# Altium schematic symbol library Microcontrolador.SchLib: 32 symbols (part 1 of 3)
Pins are listed as number, name and electrical type; pins without a type are passive.

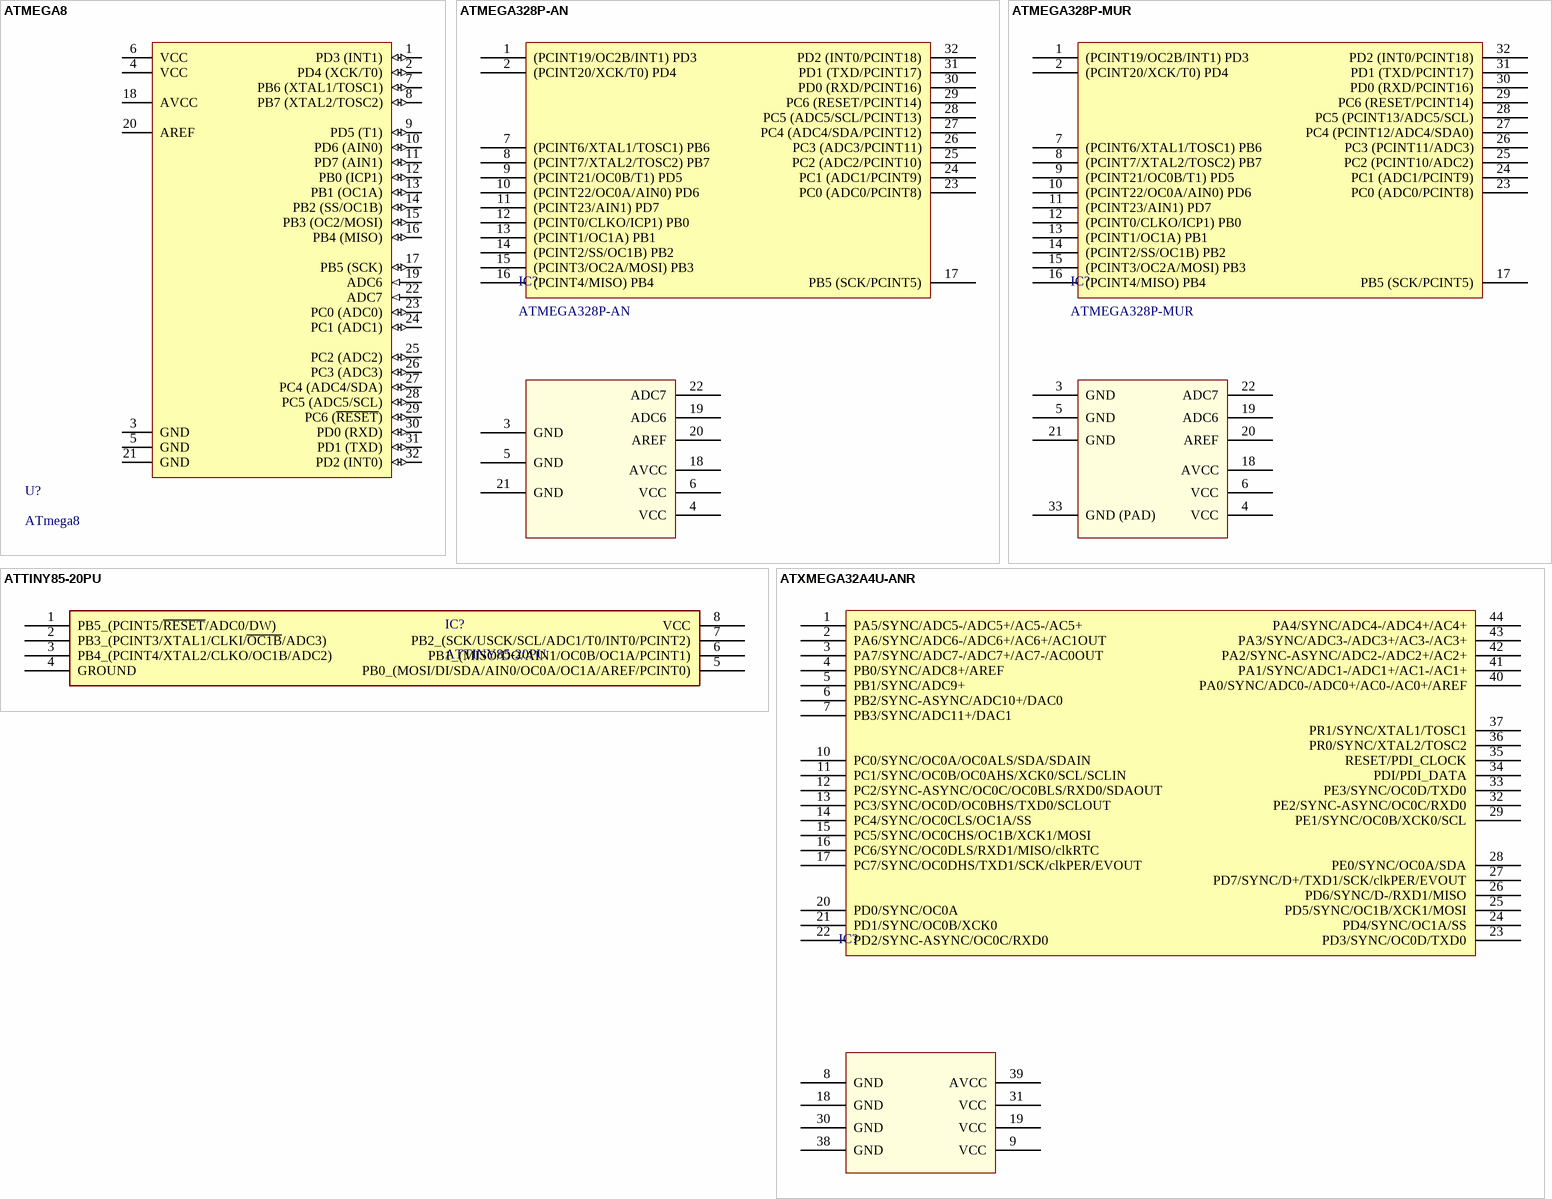
[diagram p0: symbols ATMEGA8 to ATXMEGA32A4U-ANR]

## ATMEGA8
designator U?, comment ATmega8
8-bit Atmel with / 8KBytes InSystem / Programmable / Flash
footprint ATMEGA8
pins: 1 PD3 (INT1) (io), 2 PD4 (XCK/T0) (io), 3 GND (power), 4 VCC (power), 5 GND (power), 6 VCC (power), 7 PB6 (XTAL1/TOSC1) (io), 8 PB7 (XTAL2/TOSC2) (io), 9 PD5 (T1) (io), 10 PD6 (AIN0) (io), 11 PD7 (AIN1) (io), 12 PB0 (ICP1) (io), 13 PB1 (OC1A) (io), 14 PB2 (SS/OC1B) (io), 15 PB3 (OC2/MOSI) (io), 16 PB4 (MISO) (io), 17 PB5 (SCK) (io), 18 AVCC (power), 19 ADC6 (in), 20 AREF, 21 GND (power), 22 ADC7 (in), 23 PC0 (ADC0) (io), 24 PC1 (ADC1) (io), 25 PC2 (ADC2) (io), 26 PC3 (ADC3) (io), 27 PC4 (ADC4/SDA) (io), 28 PC5 (ADC5/SCL) (io), 29 PC6 (~{RESET}) (io), 30 PD0 (RXD) (io), 31 PD1 (TXD) (io), 32 PD2 (INT0) (io)

## ATMEGA328P-AN
designator IC?
IC MCU 8-BIT 32KB FLASH AVR 20MHZ TQFP-32; Manufacturer: Microchip Technology; Connectivity: I2C,SPI,USART; Number of I/Os: 23; Oscillator Type: Internal; Peripherals: Reset,PWM,WDT,SPI,I2C,ADC,Timer; RAM Size: 2 kB; Voltage - Supply (Vcc/Vdd): 1.8V ~ 5.5V; Number of Timers/Counters: 3; Number of ADC Channels: 8; Number of SPI Channels: 2; Number of I2C Channels: 1; Library Control - Checked Footprint: Yes; Library Control - Person that Checked Footprint: Gustavo; Library Control - Person that did the Last Update Footprint: Stéfany (Ster); Library Control - Person that did the Last Update Schematic: Dimas; Supplier 1: Mouser; Part Number: ATMEGA328P-AN; Category: AVR-Microcontrollers-8 bits; Price: 1=2,7800, 100=2,4900 (USD); Package / Case: TQFP-32; Operating Temperature: - 40C ~ 105C; Speed: 20 MHz; Program Memory Type: Flash; Program Memory Size: 32 kB; Core Processor: AVR; Core Size: 8-bit; Number of UART/USART Channels: 1; Number of Ethernet Channels: -; Number of USB Channels: 1; Series: megaAVR; Library Ref: Microcontroller; Supplier Part Number 1: 556-ATMEGA328P-AN; Library Control - Checked Schematic: Yes; Library Control - Last Update: 19/08/2022 20:28; Library Control - Person that Checked Schematic: Gustavo; ComponentLink1Description: Mouser Link; ComponentLink1URL: https://br.mouser.com/ProductDetail/Microchip-Technology-Atmel/ATMEGA328P-AN?qs=6Dg1WZIWLC6WK556tw8xAw%3D%3D; ComponentLink2Description: Datasheet; ComponentLink2URL: https://br.mouser.com/datasheet/2/268/ATmega48A_PA_88A_PA_168A_PA_328_P_DS_DS40002061B-1900559.pdf
footprint QFP-32
pins: 1 (PCINT19/OC2B/INT1) PD3, 2 (PCINT20/XCK/T0) PD4, 3 GND, 4 VCC, 5 GND, 6 VCC, 7 (PCINT6/XTAL1/TOSC1) PB6, 8 (PCINT7/XTAL2/TOSC2) PB7, 9 (PCINT21/OC0B/T1) PD5, 10 (PCINT22/OC0A/AIN0) PD6, 11 (PCINT23/AIN1) PD7, 12 (PCINT0/CLKO/ICP1) PB0, 13 (PCINT1/OC1A) PB1, 14 (PCINT2/SS/OC1B) PB2, 15 (PCINT3/OC2A/MOSI) PB3, 16 (PCINT4/MISO) PB4, 17 PB5 (SCK/PCINT5), 18 AVCC, 19 ADC6, 20 AREF, 21 GND, 22 ADC7, 23 PC0 (ADC0/PCINT8), 24 PC1 (ADC1/PCINT9), 25 PC2 (ADC2/PCINT10), 26 PC3 (ADC3/PCINT11), 27 PC4 (ADC4/SDA/PCINT12), 28 PC5 (ADC5/SCL/PCINT13), 29 PC6 (RESET/PCINT14), 30 PD0 (RXD/PCINT16), 31 PD1 (TXD/PCINT17), 32 PD2 (INT0/PCINT18)

## ATMEGA328P-MUR
designator IC?
IC MCU 8-BIT 32kB FLASH AVR 20MHZ VQFN-32; Manufacturer: Microchip Technology; Connectivity: I2C, SPI, USART; Number of I/Os: 23; Oscillator Type: Internal; Peripherals: Reset,PWM,WDT,SPI,I2C,ADC,Timer; RAM Size: 2 kB; Voltage - Supply (Vcc/Vdd): 1.8V ~ 5.5V; Number of Timers/Counters: 3; Number of ADC Channels: 8; Number of SPI Channels: 2; Number of I2C Channels: 1; Library Control - Checked Footprint: Yes; Library Control - Person that Checked Footprint: Gustavo; Library Control - Person that did the Last Update Footprint: Stéfany (Ster); Supplier 1: Mouser; Part Number: ATMEGA328P-MUR; Category: AVR-Microcontrollers-8 bits; Price: 1=2.72, 100=2.48 (USD); Package / Case: VQFN-32; Operating Temperature: -40C ~ 85C; Speed: 20 MHz; Program Memory Type: Flash; Program Memory Size: 32 kB; Core Processor: AVR; Core Size: 8-bit; Number of UART/USART Channels: 1; Number of Ethernet Channels: -; Number of USB Channels: 1; Series: megaAVR; Library Ref: Microcontrollers; Supplier Part Number 1: 556-ATMEGA328P-MUR; Library Control - Checked Schematic: Yes; Library Control - Last Project that Used: -; Library Control - Last Update: 19/08/2022 20:48; Library Control - Person that Checked Schematic: Gustavo; Library Control - Person that did the Last Update Schematic: Stéfany (Ster); ComponentLink1Description: Datasheet; ComponentLink1URL: https://br.mouser.com/datasheet/2/268/ATmega48A_PA_88A_PA_168A_PA_328_P_DS_DS40002061B-1900559.pdf; ComponentLink2Description: Mouser link; ComponentLink2URL: https://br.mouser.com/ProductDetail/Microchip-Technology-Atmel/ATMEGA328P-MUR?qs=6Dg1WZIWLC7u6Xm9ddn7Uw%3D%3D
footprint VQFN-32
pins: 1 (PCINT19/OC2B/INT1) PD3, 2 (PCINT20/XCK/T0) PD4, 3 GND, 4 VCC, 5 GND, 6 VCC, 7 (PCINT6/XTAL1/TOSC1) PB6, 8 (PCINT7/XTAL2/TOSC2) PB7, 9 (PCINT21/OC0B/T1) PD5, 10 (PCINT22/OC0A/AIN0) PD6, 11 (PCINT23/AIN1) PD7, 12 (PCINT0/CLKO/ICP1) PB0, 13 (PCINT1/OC1A) PB1, 14 (PCINT2/SS/OC1B) PB2, 15 (PCINT3/OC2A/MOSI) PB3, 16 (PCINT4/MISO) PB4, 17 PB5 (SCK/PCINT5), 18 AVCC, 19 ADC6, 20 AREF, 21 GND, 22 ADC7, 23 PC0 (ADC0/PCINT8), 24 PC1 (ADC1/PCINT9), 25 PC2 (PCINT10/ADC2), 26 PC3 (PCINT11/ADC3), 27 PC4 (PCINT12/ADC4/SDA0), 28 PC5 (PCINT13/ADC5/SCL), 29 PC6 (RESET/PCINT14), 30 PD0 (RXD/PCINT16), 31 PD1 (TXD/PCINT17), 32 PD2 (INT0/PCINT18), 33 GND (PAD)

## ATTINY85-20PU
designator IC?
IC MCU 8-BIT 8kB FLASH tinyAVR 20MHZ  PDIP-8; Manufacturer: Atmel; Number of I/Os: 6; Oscillator Type: Internal; Peripherals: ADC, Timer; Core Processor: AVR; RAM Size: 512 B; Voltage - Supply (Vcc/Vdd): 2.7 V to 5.5 V; Number of Timers/Counters: 2; Number of ADC Channels: 4; Library Control - Person that Checked Footprint: Gustavo; Library Control - Person that did the Last Update Footprint: Marcos; Supplier 1: Mouser; Part Number: ATTINY85-20PU; Category: 8-bit Microcontrollers - MCU; Price: 1 = $1.65, 25=$1.51, 100 = $1.49 (USD); Package/Case: PDIP-8; Operating Temperature: -55°C to 85°C; Connectivity: -; Speed: 20MHz; Program Memory Type: Flash; Program Memory Size: 8kB; Core Size: *; Number of SPI Channels: -; Number of I2C Channels: -; Number of UART/USART Channels: -; Number of Ethernet Channels: -; Series: tinyAVR; Library Ref: Microcrontrollers; Supplier Part Number 1: 556-ATTINY85-20PU; Library Control - Checked Footprint: *; Library Control - Checked Schematic: *; Library Control - Last Project that Used: *; Library Control - Last Update: 19/08/2022 20:31; Library Control - Person that Checked Schematic: Gustavo; Library Control - Person that did the Last Update Schematic: Marcos; ComponentLink1Description: Mouser Link; ComponentLink1URL: https://www.mouser.com/ProductDetail/Microchip-Technology-Atmel/ATTINY85-20PU?qs=%2Fha2pyFadujL4RlxtpWxxLMm%2FfUrIxqVY%252BEOQbU4i0DgqHEcrHvHEg%3D%3D; ComponentLink2Description: Datasheet Link; ComponentLink2URL: https://www.mouser.com/datasheet/2/268/Atmel-2586-AVR-8-bit-Microcontroller-ATtiny25-ATti-1315542.pdf
footprint PDIP-8
pins: 1 PB5_(PCINT5/~{RESET}/ADC0/DW), 2 PB3_(PCINT3/XTAL1/CLKI/~{OC1B}/ADC3), 3 PB4_(PCINT4/XTAL2/CLKO/OC1B/ADC2), 4 GROUND (power), 5 PB0_(MOSI/DI/SDA/AIN0/OC0A/OC1A/AREF/PCINT0), 6 PB1_(MISO/DO/AIN1/OC0B/OC1A/PCINT1), 7 PB2_(SCK/USCK/SCL/ADC1/T0/INT0/PCINT2), 8 VCC (power)

## ATXMEGA32A4U-ANR
designator IC?  (value not drawn)
IC MCU 8-BIT/16-BIT 32kB FLASH AVR 32MHZ TQFP-44; Manufacturer: Microchip Technology; Connectivity: I2C,IrDA,SPI,USART; Number of I/Os: 34; Oscillator Type: Internal; Peripherals: DMA,Timer,USB,USART,I2C,SPI,CRC,RTC,ADC,DAC,WDT,Reset; RAM Size: 4 kB; Voltage - Supply (Vcc/Vdd): 1.6V ~ 3.6V; Number of Timers/Counters: 5; Number of ADC Channels: 12; Number of SPI Channels: 2; Number of USB Channels: 1; Library Control - Checked Footprint: Yes; Library Control - Person that Checked Footprint: Gustavo; Library Control - Person that did the Last Update Footprint: Stéfany (Ster); Supplier 1: Mouser; Part Number: ATXMEGA32A4U-ANR; Category: AVR-Microcontrollers-8 bits; Price: 1=3.94, 100=3.56 (USD); Package / Case: TQFP-44; Operating Temperature: 0C ~ 105C; Speed: 32 MHz; Program Memory Type: Flash; Program Memory Size: 32 kB; Core Processor: AVR; Core Size: 8-bit/16-bit; Number of I2C Channels: 2; Number of UART/USART Channels: 5; Number of Ethernet Channels: -; Series: XMEGA A4U; Library Ref: Microcontrollers; Supplier Part Number 1: 556-ATXMEGA32A4U-ANR; Library Control - Checked Schematic: Yes; Library Control - Last Update: 19/08/2022 20:34; Library Control - Person that Checked Schematic: Gustavo; Library Control - Person that did the Last Update Schematic: Stéfany (Ster); ComponentLink1Description: Datasheet; ComponentLink1URL: https://br.mouser.com/datasheet/2/268/Atmel-8387-8-and16-bit-AVR-Microcontroller-XMEGA-A-1315807.pdf; ComponentLink2Description: Mouser link; ComponentLink2URL: https://br.mouser.com/ProductDetail/Microchip-Technology-Atmel/ATXMEGA32A4U-ANR?qs=sGAEpiMZZMvqv2n3s2xjsZOYMmYBhu6pT0E%2F4KoK%252BVDPJ26LYg5w0g%3D%3D
footprint TQFP-44
pins: 1 PA5/SYNC/ADC5-/ADC5+/AC5-/AC5+, 2 PA6/SYNC/ADC6-/ADC6+/AC6+/AC1OUT, 3 PA7/SYNC/ADC7-/ADC7+/AC7-/AC0OUT, 4 PB0/SYNC/ADC8+/AREF, 5 PB1/SYNC/ADC9+, 6 PB2/SYNC-ASYNC/ADC10+/DAC0, 7 PB3/SYNC/ADC11+/DAC1, 8 GND, 9 VCC, 10 PC0/SYNC/OC0A/OC0ALS/SDA/SDAIN, 11 PC1/SYNC/OC0B/OC0AHS/XCK0/SCL/SCLIN, 12 PC2/SYNC-ASYNC/OC0C/OC0BLS/RXD0/SDAOUT, 13 PC3/SYNC/OC0D/OC0BHS/TXD0/SCLOUT, 14 PC4/SYNC/OC0CLS/OC1A/SS, 15 PC5/SYNC/OC0CHS/OC1B/XCK1/MOSI, 16 PC6/SYNC/OC0DLS/RXD1/MISO/clkRTC, 17 PC7/SYNC/OC0DHS/TXD1/SCK/clkPER/EVOUT, 18 GND, 19 VCC, 20 PD0/SYNC/OC0A, 21 PD1/SYNC/OC0B/XCK0, 22 PD2/SYNC-ASYNC/OC0C/RXD0, 23 PD3/SYNC/OC0D/TXD0, 24 PD4/SYNC/OC1A/SS, 25 PD5/SYNC/OC1B/XCK1/MOSI, 26 PD6/SYNC/D-/RXD1/MISO, 27 PD7/SYNC/D+/TXD1/SCK/clkPER/EVOUT, 28 PE0/SYNC/OC0A/SDA, 29 PE1/SYNC/OC0B/XCK0/SCL, 30 GND, 31 VCC, 32 PE2/SYNC-ASYNC/OC0C/RXD0, 33 PE3/SYNC/OC0D/TXD0, 34 PDI/PDI_DATA, 35 RESET/PDI_CLOCK, 36 PR0/SYNC/XTAL2/TOSC2, 37 PR1/SYNC/XTAL1/TOSC1, 38 GND, 39 AVCC, 40 PA0/SYNC/ADC0-/ADC0+/AC0-/AC0+/AREF, 41 PA1/SYNC/ADC1-/ADC1+/AC1-/AC1+, 42 PA2/SYNC-ASYNC/ADC2-/ADC2+/AC2+, 43 PA3/SYNC/ADC3-/ADC3+/AC3-/AC3+, 44 PA4/SYNC/ADC4-/ADC4+/AC4+

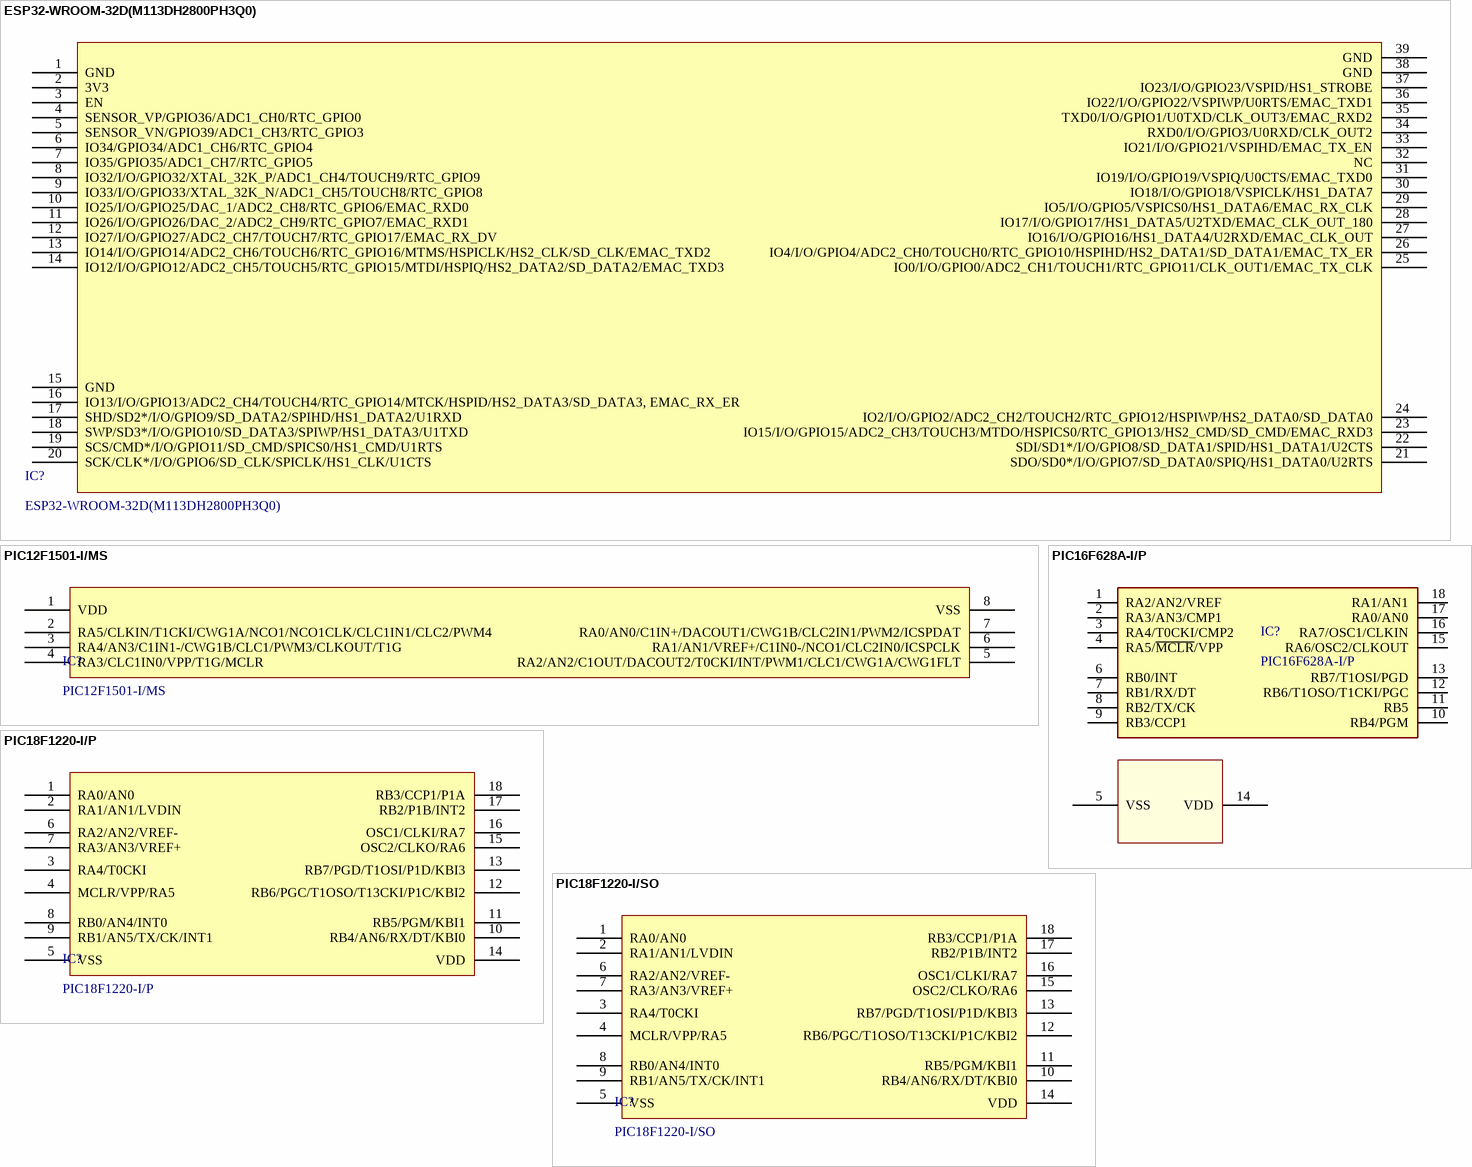
[diagram p1: symbols ESP32-WROOM-32D(M113DH2800PH3Q0) to PIC18F1220-I/SO]

## ESP32-WROOM-32D(M113DH2800PH3Q0)
designator IC?
IC MCU 32BIT 512KB FLASH LX6 240MHZ; Manufacturer: Espressif; Connectivity: SD card, UART, SPI, SDIO, I2C, Bluetooth, Wi-Fi; Number of I/Os: 22; Oscillator Type: External; Peripherals: SD card, UART, SPI, SDIO, I2C, LED PWM, Motor PWM, I2S, IR, pulse counter, GPIO, capacitive touch sensor, ADC, DAC; RAM Size: 520KB; Voltage - Supply (Vcc/Vdd): 2.7V ~ 3.6V; Core Size: 32b; Number of Timers/Counters: 16; Number of ADC Channels: 18; Number of SPI Channels: 3; Number of I2C Channels: 2; Library Control - Checked Footprint: No; Library Control - Last Project that Used: Follow-Final; Library Control - Person that Checked Footprint: Gustavo; Library Control - Person that did the Last Update Footprint: Mateus(Dimas); Supplier 1: Mouser; Part Number: ESP32-WROOM-32D(M113DH2800PH3Q0); Category: Microcontrollers; Price: 1 = 4.65 (USD); Package / Case: -; Operating Temperature: -40°C ~ 85°C; Speed: 240MHz; Program Memory Type: FLASH; Program Memory Size: 512KB; Core Processor: LX6; Mouser Link: https://br.mouser.com/ProductDetail/Espressif-Systems/ESP32-WROOM-32DM113DH2800PH3Q0?qs=W%2FMpXkg%252BdQ75%2Fda1rSxxJw%3D%3D; Number of UART Channels: 3; Number of Ethernet Channels: -; Number of USB Channels: -; Series: ESP32; Library Ref: Microcontrollers; Supplier Part Number 1: 356-ES32WROOM32D16MB; Library Control - Checked Schematic: No; Library Control - Last Update: 22/08/2022; Library Control - Person that Checked Schematic: Gustavo; Library Control - Person that did the Last Update Schematic: Mateus(Dimas); ComponentLink1Description: Datasheet; ComponentLink1URL: https://br.mouser.com/datasheet/2/891/esp32_wroom_32d_esp32_wroom_32u_datasheet_en-1365844.pdf; ComponentLink2Description: Mouser Link; ComponentLink2URL: https://br.mouser.com/ProductDetail/Espressif-Systems/ESP32-WROOM-32DM113DH2800PH3Q0?qs=W%2FMpXkg%252BdQ75%2Fda1rSxxJw%3D%3D
footprint ESP32
pins: 1 GND, 2 3V3, 3 EN, 4 SENSOR_VP/GPIO36/ADC1_CH0/RTC_GPIO0, 5 SENSOR_VN/GPIO39/ADC1_CH3/RTC_GPIO3, 6 IO34/GPIO34/ADC1_CH6/RTC_GPIO4, 7 IO35/GPIO35/ADC1_CH7/RTC_GPIO5, 8 IO32/I/O/GPIO32/XTAL_32K_P/ADC1_CH4/TOUCH9/RTC_GPIO9, 9 IO33/I/O/GPIO33/XTAL_32K_N/ADC1_CH5/TOUCH8/RTC_GPIO8, 10 IO25/I/O/GPIO25/DAC_1/ADC2_CH8/RTC_GPIO6/EMAC_RXD0, 11 IO26/I/O/GPIO26/DAC_2/ADC2_CH9/RTC_GPIO7/EMAC_RXD1, 12 IO27/I/O/GPIO27/ADC2_CH7/TOUCH7/RTC_GPIO17/EMAC_RX_DV, 13 IO14/I/O/GPIO14/ADC2_CH6/TOUCH6/RTC_GPIO16/MTMS/HSPICLK/HS2_CLK/SD_CLK/EMAC_TXD2, 14 IO12/I/O/GPIO12/ADC2_CH5/TOUCH5/RTC_GPIO15/MTDI/HSPIQ/HS2_DATA2/SD_DATA2/EMAC_TXD3, 15 GND, 16 IO13/I/O/GPIO13/ADC2_CH4/TOUCH4/RTC_GPIO14/MTCK/HSPID/HS2_DATA3/SD_DATA3, EMAC_RX_ER, 17 SHD/SD2*/I/O/GPIO9/SD_DATA2/SPIHD/HS1_DATA2/U1RXD, 18 SWP/SD3*/I/O/GPIO10/SD_DATA3/SPIWP/HS1_DATA3/U1TXD, 19 SCS/CMD*/I/O/GPIO11/SD_CMD/SPICS0/HS1_CMD/U1RTS, 20 SCK/CLK*/I/O/GPIO6/SD_CLK/SPICLK/HS1_CLK/U1CTS, 21 SDO/SD0*/I/O/GPIO7/SD_DATA0/SPIQ/HS1_DATA0/U2RTS, 22 SDI/SD1*/I/O/GPIO8/SD_DATA1/SPID/HS1_DATA1/U2CTS, 23 IO15/I/O/GPIO15/ADC2_CH3/TOUCH3/MTDO/HSPICS0/RTC_GPIO13/HS2_CMD/SD_CMD/EMAC_RXD3, 24 IO2/I/O/GPIO2/ADC2_CH2/TOUCH2/RTC_GPIO12/HSPIWP/HS2_DATA0/SD_DATA0, 25 IO0/I/O/GPIO0/ADC2_CH1/TOUCH1/RTC_GPIO11/CLK_OUT1/EMAC_TX_CLK, 26 IO4/I/O/GPIO4/ADC2_CH0/TOUCH0/RTC_GPIO10/HSPIHD/HS2_DATA1/SD_DATA1/EMAC_TX_ER, 27 IO16/I/O/GPIO16/HS1_DATA4/U2RXD/EMAC_CLK_OUT, 28 IO17/I/O/GPIO17/HS1_DATA5/U2TXD/EMAC_CLK_OUT_180, 29 IO5/I/O/GPIO5/VSPICS0/HS1_DATA6/EMAC_RX_CLK, 30 IO18/I/O/GPIO18/VSPICLK/HS1_DATA7, 31 IO19/I/O/GPIO19/VSPIQ/U0CTS/EMAC_TXD0, 32 NC, 33 IO21/I/O/GPIO21/VSPIHD/EMAC_TX_EN, 34 RXD0/I/O/GPIO3/U0RXD/CLK_OUT2, 35 TXD0/I/O/GPIO1/U0TXD/CLK_OUT3/EMAC_RXD2, 36 IO22/I/O/GPIO22/VSPIWP/U0RTS/EMAC_TXD1, 37 IO23/I/O/GPIO23/VSPID/HS1_STROBE, 38 GND, 39 GND

## PIC12F1501-I/MS
designator IC?
IC MCU 8-BIT 1.75kB FLASH PIC12F 20MHZ MSOP-8; Manufacturer: Microchip Technology; Number of I/Os: 6; Oscillator Type: Internal; Peripherals: ADC,DAC,PWM,Timer,I/O,Reset; Core Processor: PIC; RAM Size: 64 B; Voltage - Supply (Vcc/Vdd): 2.3V ~ 5.5V; Number of Timers/Counters: 2/1; Number of ADC Channels: 4; Library Control - Checked Footprint: Yes; Library Control - Person that Checked Footprint: Gustavo; Library Control - Person that did the Last Update Footprint: Stéfany (Ster); Supplier 1: Mouser; Part Number: PIC12F1501-I/MS; Category: PIC-Microcontrollers-8 bits; Price: 1=0.88, 100=0.794 (USD); Package / Case: MSOP-8; Operating Temperature: -40C ~ 85C; Connectivity: -; Speed: 20 MHz; Program Memory Type: Flash; Program Memory Size: 1.75 kB; Core Size: 8-bit; Number of SPI Channels: -; Number of I2C Channels: -; Number of UART/USART Channels: -; Number of Ethernet Channels: -; Number of USB Channels: -; Series: PIC12F; Library Ref: Microcontrollers; Supplier Part Number 1: 579-PIC12F1501IMS; Library Control - Checked Schematic: Yes; Library Control - Last Update: 19/08/2022 20:35; Library Control - Person that Checked Schematic: Gustavo; Library Control - Person that did the Last Update Schematic: Stéfany (Ster); ComponentLink1Description: Mouser Link; ComponentLink1URL: https://br.mouser.com/ProductDetail/Microchip-Technology/PIC12F1501-I-MS?qs=%2Fha2pyFaduhP4KuaKjx0gUGiQfUy1YPE5EoXH2ER1q6Qr6rlESCMGw%3D%3D; ComponentLink2Description: Datasheet; ComponentLink2URL: https://br.mouser.com/datasheet/2/268/40001615C-890245.pdf
footprint MSOP-8
pins: 1 VDD, 2 RA5/CLKIN/T1CKI/CWG1A/NCO1/NCO1CLK/CLC1IN1/CLC2/PWM4, 3 RA4/AN3/C1IN1-/CWG1B/CLC1/PWM3/CLKOUT/T1G, 4 RA3/CLC1IN0/VPP/T1G/MCLR, 5 RA2/AN2/C1OUT/DACOUT2/T0CKI/INT/PWM1/CLC1/CWG1A/CWG1FLT, 6 RA1/AN1/VREF+/C1IN0-/NCO1/CLC2IN0/ICSPCLK, 7 RA0/AN0/C1IN+/DACOUT1/CWG1B/CLC2IN1/PWM2/ICSPDAT, 8 VSS

## PIC16F628A-I/P
designator IC?
IC MCU 8-BIT 3.5kB FLASH PIC18F 20MHZ PDIP-18; Manufacturer: Microchip; Connectivity: EAUSART; Number of I/Os: 16 I/O; Oscillator Type: Internal; Peripherals: Timer,I/O,USART,PWM; Core Processor: PIC; RAM Size: 224 B; Voltage - Supply (Vcc/Vdd): 3V ~ 5.5V; Number of Timers/Counters: 2/1; Number of UART Channels: 1; Library Control - Checked Footprint: Yes; Library Control - Person that did the Last Update Footprint: Gustavo; Supplier 1: Mouser; Part Number: PIC16F628A-I/P; Category: Pic 8-bit Microcontrollers; Price: 1 = 3.29(USD); Package / Case: PDIP-18; Operating Temperature: - 40 ~ + 85 C; Speed: 20 MHz; Program Memory Type: Flash; Program Memory Size: 3.5 kB; Core Size: 8-bit; Mouser Link: https://www.mouser.com/ProductDetail/Microchip-Technology-Atmel/PIC16F628A-I-P?qs=TQnwojwsYvhYg%252BlawXiiJg%3D%3D; Number of ADC Channels: -; Number of SPI Channels: -; Number of I2C Channels: -; Number of Ethernet Channels: -; Number of USB Channels: -; Datasheet: https://www.mouser.com/datasheet/2/268/40044G-278038.pdf; Series: PIC16(L)F62x; Library Ref: Microcontrollers; Supplier Part Number 1: 579-PIC16F628A-I/P; Library Control - Checked Schematic: Yes; Library Control - Person that did the Last Update Schematic: Gustavo; ComponentLink1Description: Mouser link; ComponentLink1URL: https://www.mouser.com/ProductDetail/Microchip-Technology-Atmel/PIC16F628A-I-P?qs=TQnwojwsYvhYg%252BlawXiiJg%3D%3D; ComponentLink2Description: datasheet; ComponentLink2URL: https://www.mouser.com/datasheet/2/268/40044G-278038.pdf
footprint PDIP-18
pins: 1 RA2/AN2/VREF, 2 RA3/AN3/CMP1, 3 RA4/T0CKI/CMP2, 4 RA5/~{MCLR}/VPP, 5 VSS, 6 RB0/INT, 7 RB1/RX/DT, 8 RB2/TX/CK, 9 RB3/CCP1, 10 RB4/PGM, 11 RB5, 12 RB6/T1OSO/T1CKI/PGC, 13 RB7/T1OSI/PGD, 14 VDD, 15 RA6/OSC2/CLKOUT, 16 RA7/OSC1/CLKIN, 17 RA0/AN0, 18 RA1/AN1

## PIC18F1220-I/P
designator IC?
IC MCU 8-BIT 4kB FLASH PIC18F 40MHZ PDIP-18; Manufacturer: Microchip Technology; Connectivity: EUSART; Number of I/Os: 16; Oscillator Type: Internal; Peripherals: External Interrupts,PWM,ADC,USART,Reset,Timer; Core Processor: PIC; RAM Size: 256 B; Voltage - Supply (Vcc/Vdd): 4.2V ~ 5.5V; Number of Timers/Counters: 1/3; Number of ADC Channels: 7; Number of UART/USART Channels: 1; Library Control - Checked Footprint: Yes; Library Control - Person that Checked Footprint: Gustavo; Library Control - Person that did the Last Update Footprint: Stéfany (Ster); Supplier 1: Mouser; Part Number: PIC18F1220-I/P; Category: PIC-Microcontrollers-8 bits; Price: 1=4.28 (USD); Package / Case: PDIP-18; Operating Temperature: -40C ~ 85C; Speed: 40 MHz; Program Memory Type: Flash; Program Memory Size: 4 kB; Core Size: 8-bit; Number of SPI Channels: -; Number of I2C Channels: -; Number of Ethernet Channels: -; Number of USB Channels: -; Series: PIC18F; Library Ref: Microcontrollers; Supplier Part Number 1: 579-PIC18F1220-I/P; Library Control - Checked Schematic: Yes; Library Control - Last Update: 19/08/2022 20:37; Library Control - Person that Checked Schematic: Gustavo; Library Control - Person that did the Last Update Schematic: Stéfany (Ster); ComponentLink1Description: Datasheet; ComponentLink1URL: https://br.mouser.com/datasheet/2/268/30009605G-1074158.pdf; ComponentLink2Description: Mouser link; ComponentLink2URL: https://br.mouser.com/ProductDetail/Microchip-Technology/PIC18F1220-I-P?qs=%2Fha2pyFaduhP4KuaKjx0gUGDIJcwiJZSBO0V3uYRB610K18caxExew%3D%3D
footprint PDIP-18
pins: 1 RA0/AN0, 2 RA1/AN1/LVDIN, 3 RA4/T0CKI, 4 MCLR/VPP/RA5, 5 VSS, 6 RA2/AN2/VREF-, 7 RA3/AN3/VREF+, 8 RB0/AN4/INT0, 9 RB1/AN5/TX/CK/INT1, 10 RB4/AN6/RX/DT/KBI0, 11 RB5/PGM/KBI1, 12 RB6/PGC/T1OSO/T13CKI/P1C/KBI2, 13 RB7/PGD/T1OSI/P1D/KBI3, 14 VDD, 15 OSC2/CLKO/RA6, 16 OSC1/CLKI/RA7, 17 RB2/P1B/INT2, 18 RB3/CCP1/P1A

## PIC18F1220-I/SO
designator IC?
IC MCU 8-BIT 4kB FLASH PIC18F 40MHZ SOIC-18; Manufacturer: Microchip Technology; Connectivity: EUSART; Number of I/Os: 16; Oscillator Type: Internal; Peripherals: External Interrupts,Timer,ADC,USART,PWM,Reset; Core Processor: PIC; RAM Size: 256 B; Voltage - Supply (Vcc/Vdd): 4.2V ~ 5.5V; Number of Timers/Counters: 1/3; Number of ADC Channels: 7; Number of UART/USART Channels: 1; Library Control - Checked Footprint: Yes; Library Control - Person that Checked Footprint: Gustavo; Library Control - Person that did the Last Update Footprint: Stéfany (Ster); Supplier 1: Mouser; Part Number: PIC18F1220-I/SO; Category: PIC-Microcontrollers-8 bits; Price: 1=3.96 (USD); Package / Case: SOIC-18; Operating Temperature: -40C ~ 85C; Speed: 40 MHz; Program Memory Type: Flash; Program Memory Size: 4 kB; Core Size: 8-bit; Number of SPI Channels: -; Number of I2C Channels: -; Number of Ethernet Channels: -; Number of USB Channels: -; Series: PIC18F; Library Ref: Microcontrollers; Supplier Part Number 1: 579-PIC18F1220-I/SO; Library Control - Checked Schematic: Yes; Library Control - Last Project that Used: -; Library Control - Last Update: 19/08/2022 20:38; Library Control - Person that Checked Schematic: Gustavo; Library Control - Person that did the Last Update Schematic: Stéfany (Ster); ComponentLink1Description: Datasheet; ComponentLink1URL: https://br.mouser.com/datasheet/2/268/30009605G-1074158.pdf; ComponentLink2Description: Mouser link; ComponentLink2URL: https://br.mouser.com/ProductDetail/Microchip-Technology/PIC18F1220-I-SO?qs=z7SKuAZbLnvkRbBl7qxhsQ%3D%3D
footprint SOIC-18
pins: 1 RA0/AN0, 2 RA1/AN1/LVDIN, 3 RA4/T0CKI, 4 MCLR/VPP/RA5, 5 VSS, 6 RA2/AN2/VREF-, 7 RA3/AN3/VREF+, 8 RB0/AN4/INT0, 9 RB1/AN5/TX/CK/INT1, 10 RB4/AN6/RX/DT/KBI0, 11 RB5/PGM/KBI1, 12 RB6/PGC/T1OSO/T13CKI/P1C/KBI2, 13 RB7/PGD/T1OSI/P1D/KBI3, 14 VDD, 15 OSC2/CLKO/RA6, 16 OSC1/CLKI/RA7, 17 RB2/P1B/INT2, 18 RB3/CCP1/P1A

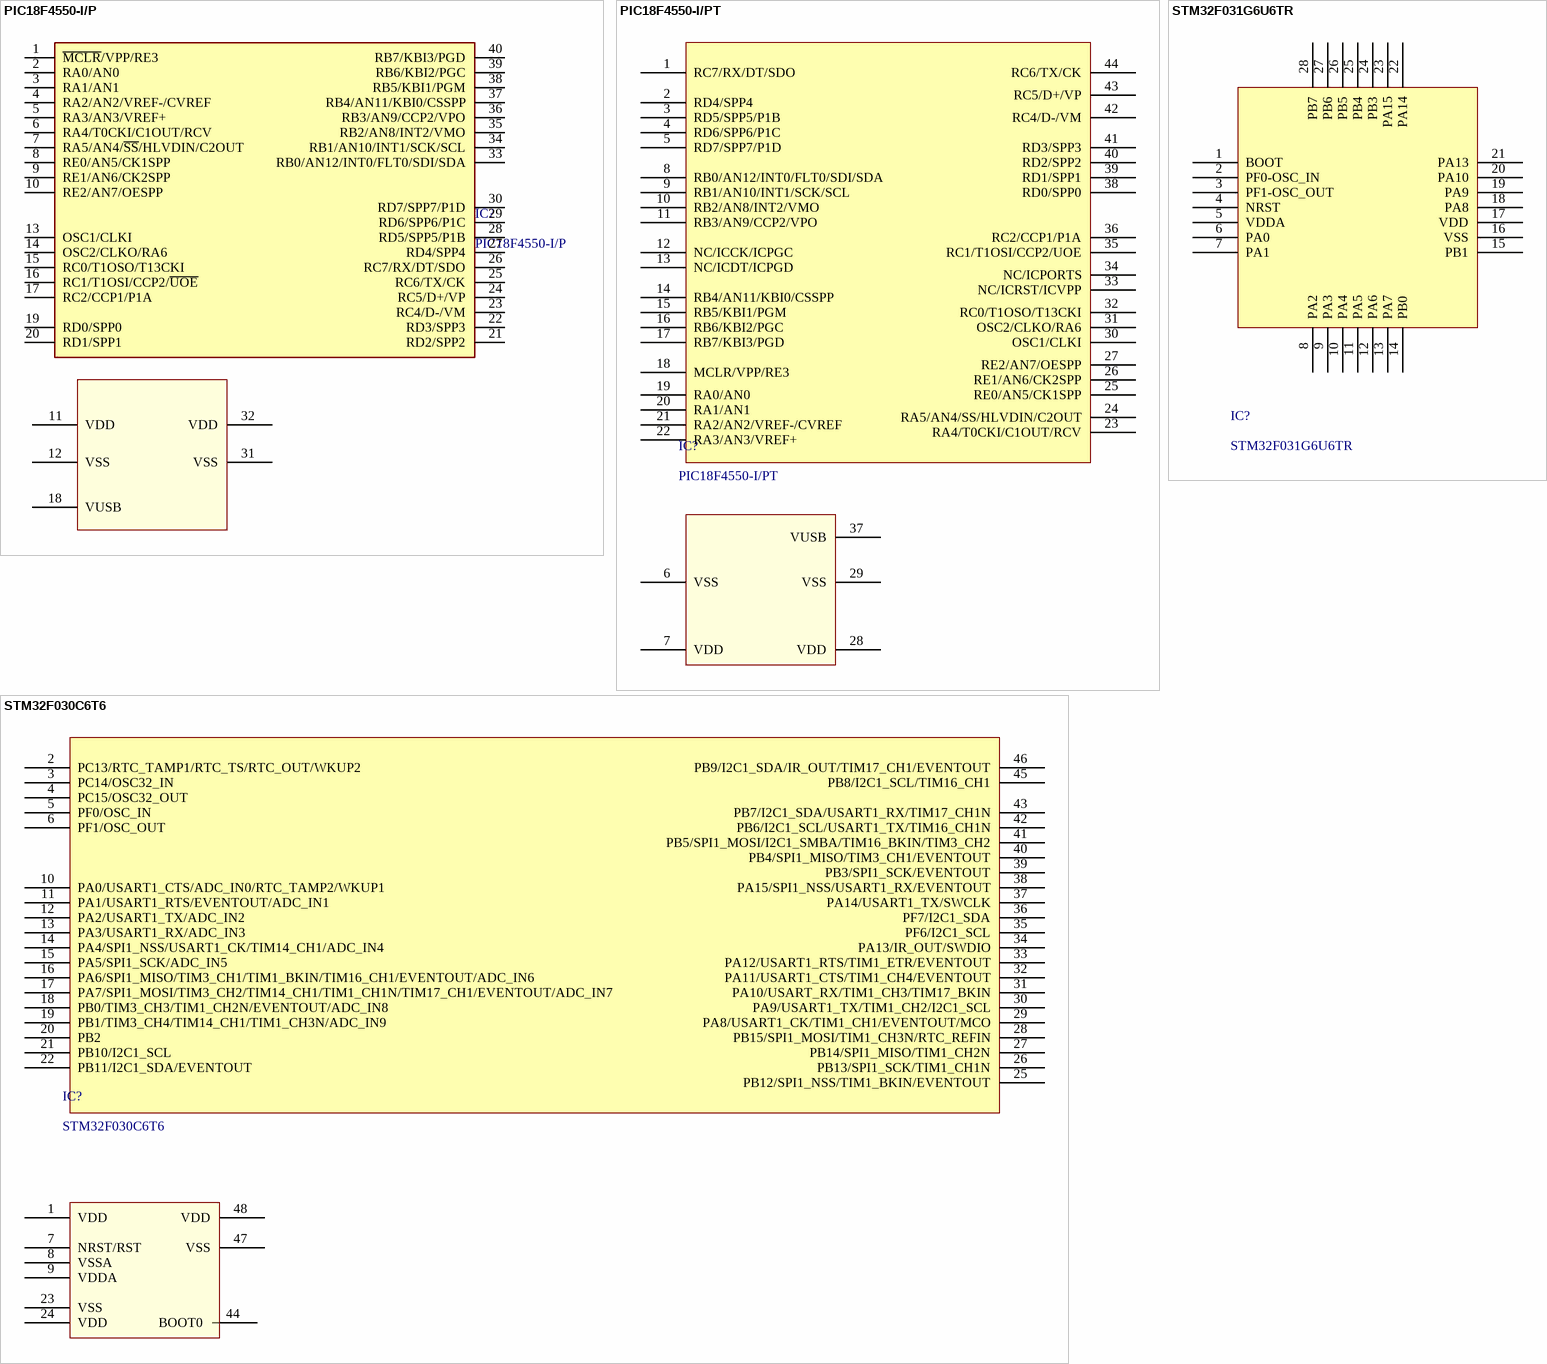
[diagram p2: symbols PIC18F4550-I/P to STM32F031G6U6TR]

## PIC18F4550-I/P
designator IC?
IC MCU 8-BIT 32kB FLASH PIC18F 48MHZ PDIP-40; Manufacturer: Microchip; Connectivity: EUSART,I2C,SPI; Number of I/Os: 35 I/O; Oscillator Type: Internal; Peripherals: USB,Reset,PWM,WDT,SPI,I2C,ADC,Timer; Core Processor: PIC; RAM Size: 2 kB; Voltage - Supply (Vcc/Vdd): 4.2V ~ 5.5V; Number of Timers/Counters: 1/3; Number of ADC Channels: 13; Number of SPI Channels: 1; Library Control - Checked Footprint: Yes; Library Control - Person that did the Last Update Footprint: Gustavo; Supplier 1: Mouser; Part Number: PIC18F4550-I/P; Category: Pic 8-bit Microcontrollers; Price: 1 = 8,36(USD); Package / Case: PDIP-40; Operating Temperature: - 40 ~ + 85 C; Speed: 48 MHz; Program Memory Type: Flash; Program Memory Size: 32 kB; Core Size: 8-bit; Mouser Link: https://www.mouser.com/ProductDetail/Microchip-Technology-Atmel/PIC18F4550-I-P?qs=oKK8NaWdAJs8nLDXBGwMXw%3D%3D; Number of I2C Channels: 1; Number of UART Channels: 1; Number of Ethernet Channels: -; Number of USB Channels: 1; Datasheet: https://www.mouser.com/datasheet/2/268/39632e-48732.pdf; Series: PIC18(L)Fxx50; Library Ref: Microcontrollers; Supplier Part Number 1: 579-PIC18F4550-I/P; Library Control - Checked Schematic: Yes; Library Control - Person that did the Last Update Schematic: Gustavo; ComponentLink1Description: mouser link; ComponentLink1URL: https://www.mouser.com/ProductDetail/Microchip-Technology-Atmel/PIC18F4550-I-P?qs=oKK8NaWdAJs8nLDXBGwMXw%3D%3D; ComponentLink2Description: datasheet; ComponentLink2URL: https://www.mouser.com/datasheet/2/268/39632e-48732.pdf
footprint PDIP-40
pins: 1 ~{MCLR}/VPP/RE3, 2 RA0/AN0, 3 RA1/AN1, 4 RA2/AN2/VREF-/CVREF, 5 RA3/AN3/VREF+, 6 RA4/T0CKI/C1OUT/RCV, 7 RA5/AN4/~{SS}/HLVDIN/C2OUT, 8 RE0/AN5/CK1SPP, 9 RE1/AN6/CK2SPP, 10 RE2/AN7/OESPP, 11 VDD, 12 VSS, 13 OSC1/CLKI, 14 OSC2/CLKO/RA6, 15 RC0/T1OSO/T13CKI, 16 RC1/T1OSI/CCP2/~{UOE}, 17 RC2/CCP1/P1A, 18 VUSB, 19 RD0/SPP0, 20 RD1/SPP1, 21 RD2/SPP2, 22 RD3/SPP3, 23 RC4/D-/VM, 24 RC5/D+/VP, 25 RC6/TX/CK, 26 RC7/RX/DT/SDO, 27 RD4/SPP4, 28 RD5/SPP5/P1B, 29 RD6/SPP6/P1C, 30 RD7/SPP7/P1D, 31 VSS, 32 VDD, 33 RB0/AN12/INT0/FLT0/SDI/SDA, 34 RB1/AN10/INT1/SCK/SCL, 35 RB2/AN8/INT2/VMO, 36 RB3/AN9/CCP2/VPO, 37 RB4/AN11/KBI0/CSSPP, 38 RB5/KBI1/PGM, 39 RB6/KBI2/PGC, 40 RB7/KBI3/PGD

## PIC18F4550-I/PT
designator IC?
IC MCU 8-BIT 32kB FLASH PIC18F 48MHZ TQFP-44; Manufacturer: Microchip Technology; Connectivity: EUSART,I2C,SPI; Number of I/Os: 35; Oscillator Type: Internal; Peripherals: USB,Reset,PWM,WDT,SPI,I2C,ADC,Timer; Core Processor: PIC; RAM Size: 2 kB; Voltage - Supply (Vcc/Vdd): 4.2V ~ 5.5V; Number of Timers/Counters: 1/3; Number of ADC Channels: 13; Number of SPI Channels: 1; Library Control - Checked Footprint: Yes; Library Control - Person that Checked Footprint: Gustavo; Library Control - Person that did the Last Update Footprint: Stéfany (Ster); Supplier 1: Mouser; Part Number: PIC18F4550-I/PT; Category: PIC-Microcontrollers-8 bits; Price: 1=7.85 (USD); Package / Case: TQFP-44; Operating Temperature: - 40C ~ 85C; Speed: 48 MHz; Program Memory Type: Flash; Program Memory Size: 32 kB; Core Size: 8-bit; Mouser Link: https://br.mouser.com/ProductDetail/Microchip-Technology/PIC18F4550-I-PT?qs=ftMpXYuXFvv6cBSO0er7Kw%3D%3D; Number of I2C Channels: 1; Number of UART/USART Channels: 1; Number of Ethernet Channels: -; Number of USB Channels: 1; Datasheet: https://br.mouser.com/datasheet/2/268/39632e-48732.pdf; Series: PIC18F; Library Ref: Microcontroller; Supplier Part Number 1: 579-PIC18F4550-I/PT; Library Control - Checked Schematic: Yes; Library Control - Last Project that Used: -; Library Control - Last Update: 19/08/2022 20:40; Library Control - Person that Checked Schematic: Gustavo; Library Control - Person that did the Last Update Schematic: Stéfany (Ster); ComponentLink1Description: Datasheet; ComponentLink1URL: https://br.mouser.com/datasheet/2/268/39632e-48732.pdf; ComponentLink2Description: Mouser link; ComponentLink2URL: https://br.mouser.com/ProductDetail/Microchip-Technology/PIC18F4550-I-PT?qs=ftMpXYuXFvv6cBSO0er7Kw%3D%3D
footprint TQFP-44
pins: 1 RC7/RX/DT/SDO, 2 RD4/SPP4, 3 RD5/SPP5/P1B, 4 RD6/SPP6/P1C, 5 RD7/SPP7/P1D, 6 VSS, 7 VDD, 8 RB0/AN12/INT0/FLT0/SDI/SDA, 9 RB1/AN10/INT1/SCK/SCL, 10 RB2/AN8/INT2/VMO, 11 RB3/AN9/CCP2/VPO, 12 NC/ICCK/ICPGC, 13 NC/ICDT/ICPGD, 14 RB4/AN11/KBI0/CSSPP, 15 RB5/KBI1/PGM, 16 RB6/KBI2/PGC, 17 RB7/KBI3/PGD, 18 MCLR/VPP/RE3, 19 RA0/AN0, 20 RA1/AN1, 21 RA2/AN2/VREF-/CVREF, 22 RA3/AN3/VREF+, 23 RA4/T0CKI/C1OUT/RCV, 24 RA5/AN4/SS/HLVDIN/C2OUT, 25 RE0/AN5/CK1SPP, 26 RE1/AN6/CK2SPP, 27 RE2/AN7/OESPP, 28 VDD, 29 VSS, 30 OSC1/CLKI, 31 OSC2/CLKO/RA6, 32 RC0/T1OSO/T13CKI, 33 NC/ICRST/ICVPP, 34 NC/ICPORTS, 35 RC1/T1OSI/CCP2/UOE, 36 RC2/CCP1/P1A, 37 VUSB, 38 RD0/SPP0, 39 RD1/SPP1, 40 RD2/SPP2, 41 RD3/SPP3, 42 RC4/D-/VM, 43 RC5/D+/VP, 44 RC6/TX/CK

## STM32F030C6T6
designator IC?
IC MCU 32-BIT 32KB FLASH ARM Cortex-M0 48MHZ LQFP-48; Manufacturer: STMicroelectronics; Connectivity: I2C,SPI,USART; Number of I/Os: 39; Oscillator Type: Internal; Peripherals: Reset,PWM,WDT,DMA,SPI,I2C,Timer,RTC; RAM Size: 4 kB; Voltage - Supply (Vcc/Vdd): 2.4V ~ 3.6V; Number of Timers/Counters: 11; Number of ADC Channels: 12; Number of SPI Channels: 2; Number of UART/USART Channels: 6; Library Control - Checked Footprint: Yes; Library Control - Person that Checked Footprint: Gustavo; Library Control - Person that did the Last Update Footprint: Stéfany (Ster); Supplier 1: Mouser; Part Number: STM32F030C6T6; Category: ARM-Microcontrollers; Price: 1=2.68, 10=2.42, 100=1.95 (USD); Package / Case: LQFP-48; Operating Temperature: -40C ~ 85C; Speed: 48 MHz; Program Memory Type: Flash; Program Memory Size: 32 kB; Core Processor: ARM Cortex-M0; Core Size: 32-bit; Mouser Link: https://br.mouser.com/ProductDetail/STMicroelectronics/STM32F030C6T6?qs=eyrSuY1LhL2a7Sjc1R1%252Bew%3D%3D; Number of I2C Channels: 2; Number of Ethernet Channels: -; Number of USB Channels: -; Datasheet: https://br.mouser.com/datasheet/2/389/dm00088500-1797910.pdf; Series: STM32F0; Library Ref: Microcontroller; Supplier Part Number 1: 511-STM32F030C6T6; Library Control - Checked Schematic: Yes; Library Control - Last Project that Used: -; Library Control - Last Update: 19/08/2022 20:41; Library Control - Person that Checked Schematic: Gustavo; Library Control - Person that did the Last Update Schematic: Stéfany (Ster); ComponentLink1Description: Mouser link; ComponentLink1URL: https://br.mouser.com/ProductDetail/STMicroelectronics/STM32F030C6T6?qs=eyrSuY1LhL2a7Sjc1R1%252Bew%3D%3D; ComponentLink2Description: Datasheet; ComponentLink2URL: https://br.mouser.com/datasheet/2/389/dm00088500-1797910.pdf
footprint LQFP-48
pins: 1 VDD, 2 PC13/RTC_TAMP1/RTC_TS/RTC_OUT/WKUP2, 3 PC14/OSC32_IN, 4 PC15/OSC32_OUT, 5 PF0/OSC_IN, 6 PF1/OSC_OUT, 7 NRST/RST, 8 VSSA, 9 VDDA, 10 PA0/USART1_CTS/ADC_IN0/RTC_TAMP2/WKUP1, 11 PA1/USART1_RTS/EVENTOUT/ADC_IN1, 12 PA2/USART1_TX/ADC_IN2, 13 PA3/USART1_RX/ADC_IN3, 14 PA4/SPI1_NSS/USART1_CK/TIM14_CH1/ADC_IN4, 15 PA5/SPI1_SCK/ADC_IN5, 16 PA6/SPI1_MISO/TIM3_CH1/TIM1_BKIN/TIM16_CH1/EVENTOUT/ADC_IN6, 17 PA7/SPI1_MOSI/TIM3_CH2/TIM14_CH1/TIM1_CH1N/TIM17_CH1/EVENTOUT/ADC_IN7, 18 PB0/TIM3_CH3/TIM1_CH2N/EVENTOUT/ADC_IN8, 19 PB1/TIM3_CH4/TIM14_CH1/TIM1_CH3N/ADC_IN9, 20 PB2, 21 PB10/I2C1_SCL, 22 PB11/I2C1_SDA/EVENTOUT, 23 VSS, 24 VDD, 25 PB12/SPI1_NSS/TIM1_BKIN/EVENTOUT, 26 PB13/SPI1_SCK/TIM1_CH1N, 27 PB14/SPI1_MISO/TIM1_CH2N, 28 PB15/SPI1_MOSI/TIM1_CH3N/RTC_REFIN, 29 PA8/USART1_CK/TIM1_CH1/EVENTOUT/MCO, 30 PA9/USART1_TX/TIM1_CH2/I2C1_SCL, 31 PA10/USART_RX/TIM1_CH3/TIM17_BKIN, 32 PA11/USART1_CTS/TIM1_CH4/EVENTOUT, 33 PA12/USART1_RTS/TIM1_ETR/EVENTOUT, 34 PA13/IR_OUT/SWDIO, 35 PF6/I2C1_SCL, 36 PF7/I2C1_SDA, 37 PA14/USART1_TX/SWCLK, 38 PA15/SPI1_NSS/USART1_RX/EVENTOUT, 39 PB3/SPI1_SCK/EVENTOUT, 40 PB4/SPI1_MISO/TIM3_CH1/EVENTOUT, 41 PB5/SPI1_MOSI/I2C1_SMBA/TIM16_BKIN/TIM3_CH2, 42 PB6/I2C1_SCL/USART1_TX/TIM16_CH1N, 43 PB7/I2C1_SDA/USART1_RX/TIM17_CH1N, 44 BOOT0, 45 PB8/I2C1_SCL/TIM16_CH1, 46 PB9/I2C1_SDA/IR_OUT/TIM17_CH1/EVENTOUT, 47 VSS, 48 VDD

## STM32F031G6U6TR
designator IC?
IC MCU 32-BIT 32KB FLASH ARM Cortex-M0 48MHZ UFQFPN-28; Manufacturer: STMicroelectronics; Part Number: STM32G081KBT6; Connectivity: I2C, USART, UART, USB; Number of I/Os: 30; Oscillator Type: Internal; Peripherals: Reset,PWM,WDT,DMA,SPI,I2C,USART,DAC,Timer,ADC; Core Processor: ARM Cortex M0+; Voltage - Supply (Vcc/Vdd): 2V ~ 3.6V; Number of Timers/Counters: 9; Number of ADC Channels: 13; Number of SPI Channels: 2; Library Control - Person that Checked Footprint: Gustavo; Supplier 1: Mouser; Category: ARM-Microcontrollers; Price: 1=3.30, 10=2.97, 100=2.43 (USD); Package / Case: LQFP-32; Operating Temperature: -40C ~ 85C; Speed: 48 MHz; Program Memory Type: Flash; Program Memory Size: 32 kB; RAM Size: 32 kB; Core Size: 32-bit; Number of I2C Channels: 2; Number of UART/USART Channels: 2; Number of Ethernet Channels: -; Number of USB Channels: -; Series: STM32G0; Library Ref: Microcontroller; Supplier Part Number 1: 511-STM32G081KBT6; Library Control - Checked Footprint: -; Library Control - Checked Schematic: -; Library Control - Last Project that Used: -; Library Control - Last Update: 19/08/2022 20:43; Library Control - Person that Checked Schematic: Gustavo; ComponentLink1Description: Mouser Link; ComponentLink1URL: https://br.mouser.com/ProductDetail/STMicroelectronics/STM32F031G6U6TR?qs=sGAEpiMZZMtJbfcMcIM8CPMch%252B3U80dxaUHRDpo1uMc%3D; ComponentLink2Description: Datasheet; ComponentLink2URL: https://br.mouser.com/datasheet/2/389/dm00104043-1798056.pdf
footprint UFQFPN28 (QFN, 28-Leads, Body 4,00x4,00mm, Pitch 0,50mm, Thermal Pad 3,30x3,30mm, IPC Medium Density)
pins: 1 BOOT, 2 PF0-OSC_IN, 3 PF1-OSC_OUT, 4 NRST, 5 VDDA, 6 PA0, 7 PA1, 8 PA2, 9 PA3, 10 PA4, 11 PA5, 12 PA6, 13 PA7, 14 PB0, 15 PB1, 16 VSS, 17 VDD, 18 PA8, 19 PA9, 20 PA10, 21 PA13, 22 PA14, 23 PA15, 24 PB3, 25 PB4, 26 PB5, 27 PB6, 28 PB7

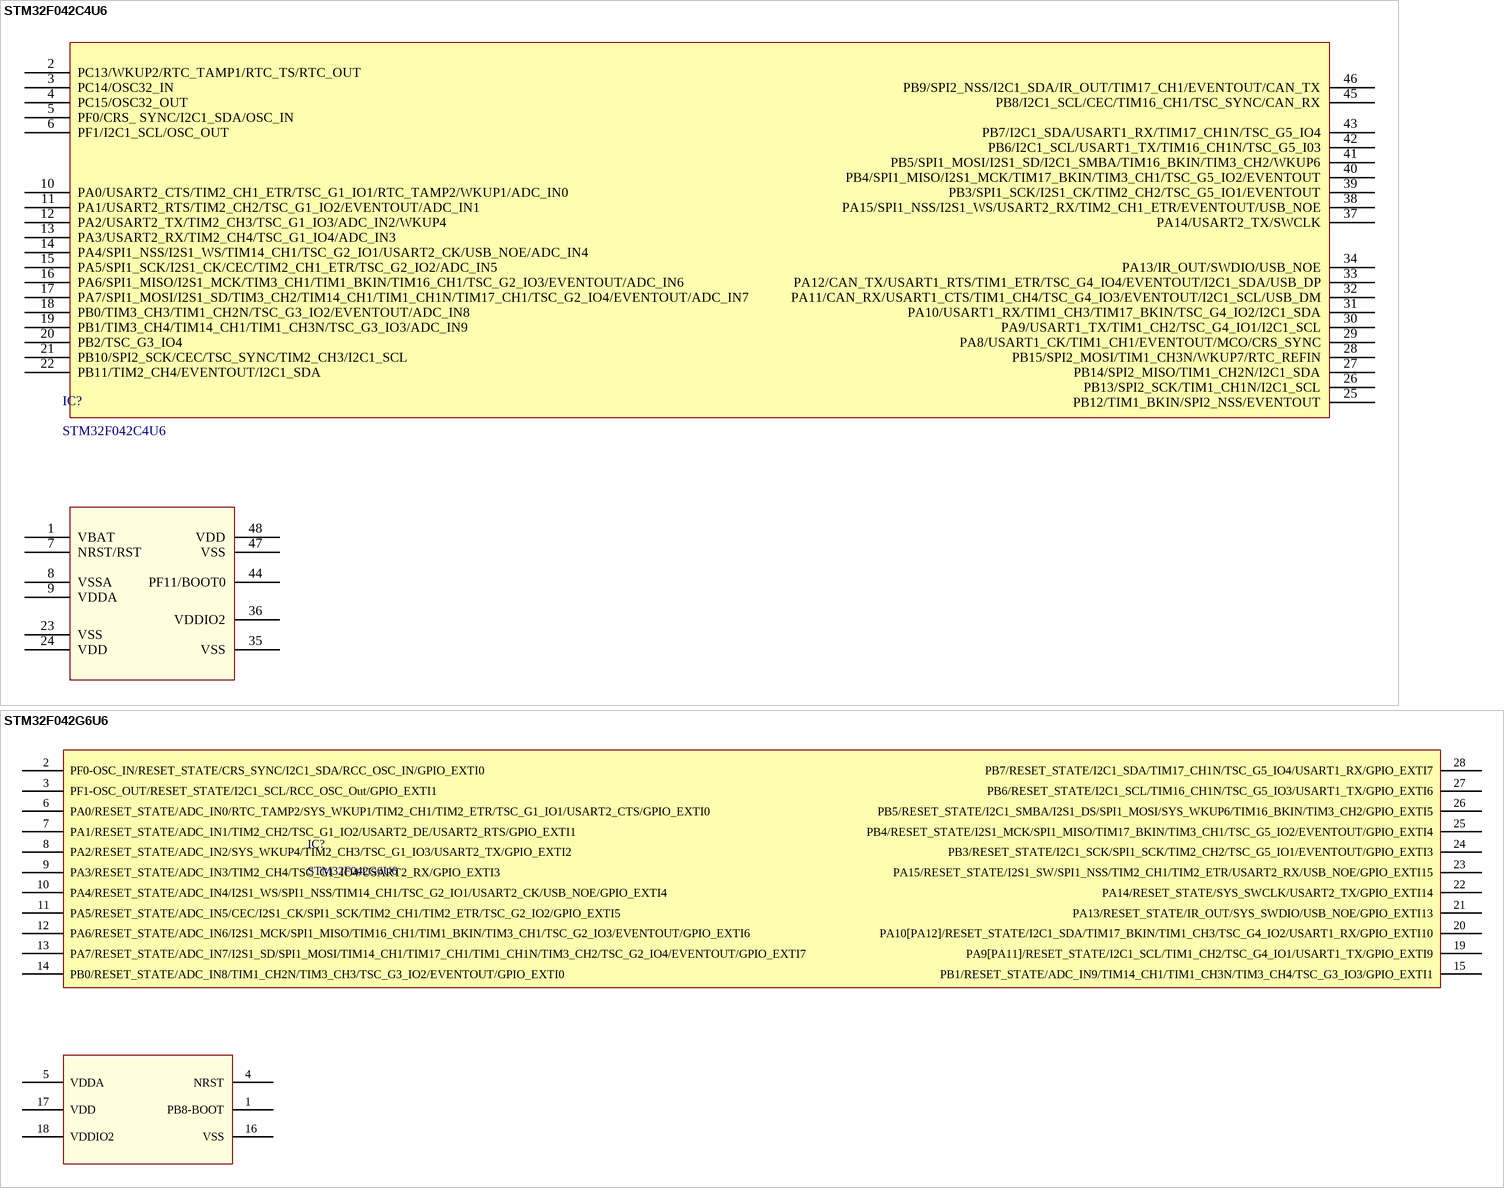
[diagram p3: symbols STM32F042C4U6 to STM32F042G6U6]

## STM32F042C4U6
designator IC?
IC MCU 32-BIT 16kB FLASH ARM Cortex-M0 48MHZ UFQFN-48; Manufacturer: STMicroelectronics; Connectivity: CAN,CEC,I2C,SPI,USART,USB,IrDA,LIN; Number of I/Os: 38; Oscillator Type: Internal; Peripherals: Reset,RTC,DMA,ADC,Timer,WDT,I2C,USART,SPI,CAN,USB,PWM,HDMI-CEC; RAM Size: 6 kB; Voltage - Supply (Vcc/Vdd): 2V ~ 3.6V; Number of Timers/Counters: 9; Number of ADC Channels: 13; Number of SPI Channels: 2; Number of I2C Channels: 1; Library Control - Checked Footprint: Yes; Library Control - Person that Checked Footprint: Gustavo; Library Control - Person that did the Last Update Footprint: Stéfany (Ster); Library Control - Person that did the Last Update Schematic: Maria Laura e Stéfany (Ster); Supplier 1: Mouser; Part Number: STM32F042C4U6; Category: ARM-Microcontrollers; Price: 1=4.76, 10=4.28, 100=3.51 (USD); Package / Case: UFQFN-48; Operating Temperature: -40C ~ 85C; Speed: 48 MHz; Program Memory Type: Flash; Program Memory Size: 16 kB; Core Processor: ARM Cortex-M0; Core Size: 32-bit; Number of UART/USART Channels: 2; Number of Ethernet Channels: -; Number of USB Channels: 1; Series: STM32F0; Library Ref: Microcontrollers; Supplier Part Number 1: 511-STM32F042C4T6; Library Control - Checked Schematic: Yes; Library Control - Last Update: 19/08/2022 20:44; Library Control - Person that Checked Schematic: Gustavo; ComponentLink1Description: Datasheet; ComponentLink1URL: https://br.mouser.com/datasheet/2/389/dm00105814-1798059.pdf; ComponentLink2Description: Mouser Link; ComponentLink2URL: https://www.mouser.com/ProductDetail/STMicroelectronics/STM32F042C4U6?qs=ClYTdQWm4hDwLc8J4usAYA%3D%3D
footprint QFN48 (QFN, 48-Leads, Body 7,00x7,00mm, Pitch 0,50mm, Thermal Pad 5,60x5,60mm, IPC Medium Density)
pins: 1 VBAT, 2 PC13/WKUP2/RTC_TAMP1/RTC_TS/RTC_OUT, 3 PC14/OSC32_IN, 4 PC15/OSC32_OUT, 5 PF0/CRS_ SYNC/I2C1_SDA/OSC_IN, 6 PF1/I2C1_SCL/OSC_OUT, 7 NRST/RST, 8 VSSA, 9 VDDA, 10 PA0/USART2_CTS/TIM2_CH1_ETR/TSC_G1_IO1/RTC_TAMP2/WKUP1/ADC_IN0, 11 PA1/USART2_RTS/TIM2_CH2/TSC_G1_IO2/EVENTOUT/ADC_IN1, 12 PA2/USART2_TX/TIM2_CH3/TSC_G1_IO3/ADC_IN2/WKUP4, 13 PA3/USART2_RX/TIM2_CH4/TSC_G1_IO4/ADC_IN3, 14 PA4/SPI1_NSS/I2S1_WS/TIM14_CH1/TSC_G2_IO1/USART2_CK/USB_NOE/ADC_IN4, 15 PA5/SPI1_SCK/I2S1_CK/CEC/TIM2_CH1_ETR/TSC_G2_IO2/ADC_IN5, 16 PA6/SPI1_MISO/I2S1_MCK/TIM3_CH1/TIM1_BKIN/TIM16_CH1/TSC_G2_IO3/EVENTOUT/ADC_IN6, 17 PA7/SPI1_MOSI/I2S1_SD/TIM3_CH2/TIM14_CH1/TIM1_CH1N/TIM17_CH1/TSC_G2_IO4/EVENTOUT/ADC_IN7, 18 PB0/TIM3_CH3/TIM1_CH2N/TSC_G3_IO2/EVENTOUT/ADC_IN8, 19 PB1/TIM3_CH4/TIM14_CH1/TIM1_CH3N/TSC_G3_IO3/ADC_IN9, 20 PB2/TSC_G3_IO4, 21 PB10/SPI2_SCK/CEC/TSC_SYNC/TIM2_CH3/I2C1_SCL, 22 PB11/TIM2_CH4/EVENTOUT/I2C1_SDA, 23 VSS, 24 VDD, 25 PB12/TIM1_BKIN/SPI2_NSS/EVENTOUT, 26 PB13/SPI2_SCK/TIM1_CH1N/I2C1_SCL, 27 PB14/SPI2_MISO/TIM1_CH2N/I2C1_SDA, 28 PB15/SPI2_MOSI/TIM1_CH3N/WKUP7/RTC_REFIN, 29 PA8/USART1_CK/TIM1_CH1/EVENTOUT/MCO/CRS_SYNC, 30 PA9/USART1_TX/TIM1_CH2/TSC_G4_IO1/I2C1_SCL, 31 PA10/USART1_RX/TIM1_CH3/TIM17_BKIN/TSC_G4_IO2/I2C1_SDA, 32 PA11/CAN_RX/USART1_CTS/TIM1_CH4/TSC_G4_IO3/EVENTOUT/I2C1_SCL/USB_DM, 33 PA12/CAN_TX/USART1_RTS/TIM1_ETR/TSC_G4_IO4/EVENTOUT/I2C1_SDA/USB_DP, 34 PA13/IR_OUT/SWDIO/USB_NOE, 35 VSS, 36 VDDIO2, 37 PA14/USART2_TX/SWCLK, 38 PA15/SPI1_NSS/I2S1_WS/USART2_RX/TIM2_CH1_ETR/EVENTOUT/USB_NOE, 39 PB3/SPI1_SCK/I2S1_CK/TIM2_CH2/TSC_G5_IO1/EVENTOUT, 40 PB4/SPI1_MISO/I2S1_MCK/TIM17_BKIN/TIM3_CH1/TSC_G5_IO2/EVENTOUT, 41 PB5/SPI1_MOSI/I2S1_SD/I2C1_SMBA/TIM16_BKIN/TIM3_CH2/WKUP6, 42 PB6/I2C1_SCL/USART1_TX/TIM16_CH1N/TSC_G5_I03, 43 PB7/I2C1_SDA/USART1_RX/TIM17_CH1N/TSC_G5_IO4, 44 PF11/BOOT0, 45 PB8/I2C1_SCL/CEC/TIM16_CH1/TSC_SYNC/CAN_RX, 46 PB9/SPI2_NSS/I2C1_SDA/IR_OUT/TIM17_CH1/EVENTOUT/CAN_TX, 47 VSS, 48 VDD

## STM32F042G6U6
designator IC?
IC MCU 32-BIT 32KB FLASH ARM Cortex-M0 48MHZ UFQFPN-28; Manufacturer: STMicroelectronics; Connectivity: I2C, USART, UART, USB; Number of I/Os: 24; Oscillator Type: Internal; Peripherals: Reset,PWM,WDT,DMA,SPI,I2C,USART,DAC,Timer,ADC; Core Processor: ARM Cortex M0+; Voltage - Supply (Vcc/Vdd): 2V ~ 3.6V; Library Control - Person that Checked Schematic: Maria Laura; Supplier 1: Mouser; Part Number: STM32F042G6U6; Category: ARM-Microcontrollers; Price: 1=3.94, 10=3.55, 100= 2.91(USD); Package / Case: UFQFPN-28; Operating Temperature: -40C ~ 85C; Speed: 48 MHz; Program Memory Type: Flash; Program Memory Size: 32 kB; RAM Size: 32 kB; Core Size: 32-bit; Number of Ethernet Channels: -; Number of USB Channels: -; Library Ref: Microcontroller; Supplier Part Number 1: 511-STM32F042G6U6; Library Control - Checked Footprint: -; Library Control - Checked Schematic: -; Library Control - Last Project that Used: -; Library Control - Last Update: 21/09/2022 20:43; ComponentLink1Description: Mouser Link; ComponentLink1URL: https://br.mouser.com/ProductDetail/STMicroelectronics/STM32F042G6U6?qs=4l9S5vBWkUK4FjFgFnucBQ%3D%3D; ComponentLink2Description: Datasheet; ComponentLink2URL: https://br.mouser.com/datasheet/2/389/stm32f042c4-1851049.pdf
footprint UFQFPN28 (QFN, 28-Leads, Body 4,00x4,00mm, Pitch 0,50mm, Thermal Pad 3,30x3,30mm, IPC Medium Density)
pins: 1 PB8-BOOT, 2 PF0-OSC_IN/RESET_STATE/CRS_SYNC/I2C1_SDA/RCC_OSC_IN/GPIO_EXTI0, 3 PF1-OSC_OUT/RESET_STATE/I2C1_SCL/RCC_OSC_Out/GPIO_EXTI1, 4 NRST, 5 VDDA, 6 PA0/RESET_STATE/ADC_IN0/RTC_TAMP2/SYS_WKUP1/TIM2_CH1/TIM2_ETR/TSC_G1_IO1/USART2_CTS/GPIO_EXTI0, 7 PA1/RESET_STATE/ADC_IN1/TIM2_CH2/TSC_G1_IO2/USART2_DE/USART2_RTS/GPIO_EXTI1, 8 PA2/RESET_STATE/ADC_IN2/SYS_WKUP4/TIM2_CH3/TSC_G1_IO3/USART2_TX/GPIO_EXTI2, 9 PA3/RESET_STATE/ADC_IN3/TIM2_CH4/TSC_G1_IO4/USART2_RX/GPIO_EXTI3, 10 PA4/RESET_STATE/ADC_IN4/I2S1_WS/SPI1_NSS/TIM14_CH1/TSC_G2_IO1/USART2_CK/USB_NOE/GPIO_EXTI4, 11 PA5/RESET_STATE/ADC_IN5/CEC/I2S1_CK/SPI1_SCK/TIM2_CH1/TIM2_ETR/TSC_G2_IO2/GPIO_EXTI5, 12 PA6/RESET_STATE/ADC_IN6/I2S1_MCK/SPI1_MISO/TIM16_CH1/TIM1_BKIN/TIM3_CH1/TSC_G2_IO3/EVENTOUT/GPIO_EXTI6, 13 PA7/RESET_STATE/ADC_IN7/I2S1_SD/SPI1_MOSI/TIM14_CH1/TIM17_CH1/TIM1_CH1N/TIM3_CH2/TSC_G2_IO4/EVENTOUT/GPIO_EXTI7, 14 PB0/RESET_STATE/ADC_IN8/TIM1_CH2N/TIM3_CH3/TSC_G3_IO2/EVENTOUT/GPIO_EXTI0, 15 PB1/RESET_STATE/ADC_IN9/TIM14_CH1/TIM1_CH3N/TIM3_CH4/TSC_G3_IO3/GPIO_EXTI1, 16 VSS, 17 VDD, 18 VDDIO2, 19 PA9[PA11]/RESET_STATE/I2C1_SCL/TIM1_CH2/TSC_G4_IO1/USART1_TX/GPIO_EXTI9, 20 PA10[PA12]/RESET_STATE/I2C1_SDA/TIM17_BKIN/TIM1_CH3/TSC_G4_IO2/USART1_RX/GPIO_EXTI10, 21 PA13/RESET_STATE/IR_OUT/SYS_SWDIO/USB_NOE/GPIO_EXTI13, 22 PA14/RESET_STATE/SYS_SWCLK/USART2_TX/GPIO_EXTI14, 23 PA15/RESET_STATE/I2S1_SW/SPI1_NSS/TIM2_CH1/TIM2_ETR/USART2_RX/USB_NOE/GPIO_EXTI15, 24 PB3/RESET_STATE/I2C1_SCK/SPI1_SCK/TIM2_CH2/TSC_G5_IO1/EVENTOUT/GPIO_EXTI3, 25 PB4/RESET_STATE/I2S1_MCK/SPI1_MISO/TIM17_BKIN/TIM3_CH1/TSC_G5_IO2/EVENTOUT/GPIO_EXTI4, 26 PB5/RESET_STATE/I2C1_SMBA/I2S1_DS/SPI1_MOSI/SYS_WKUP6/TIM16_BKIN/TIM3_CH2/GPIO_EXTI5, 27 PB6/RESET_STATE/I2C1_SCL/TIM16_CH1N/TSC_G5_IO3/USART1_TX/GPIO_EXTI6, 28 PB7/RESET_STATE/I2C1_SDA/TIM17_CH1N/TSC_G5_IO4/USART1_RX/GPIO_EXTI7

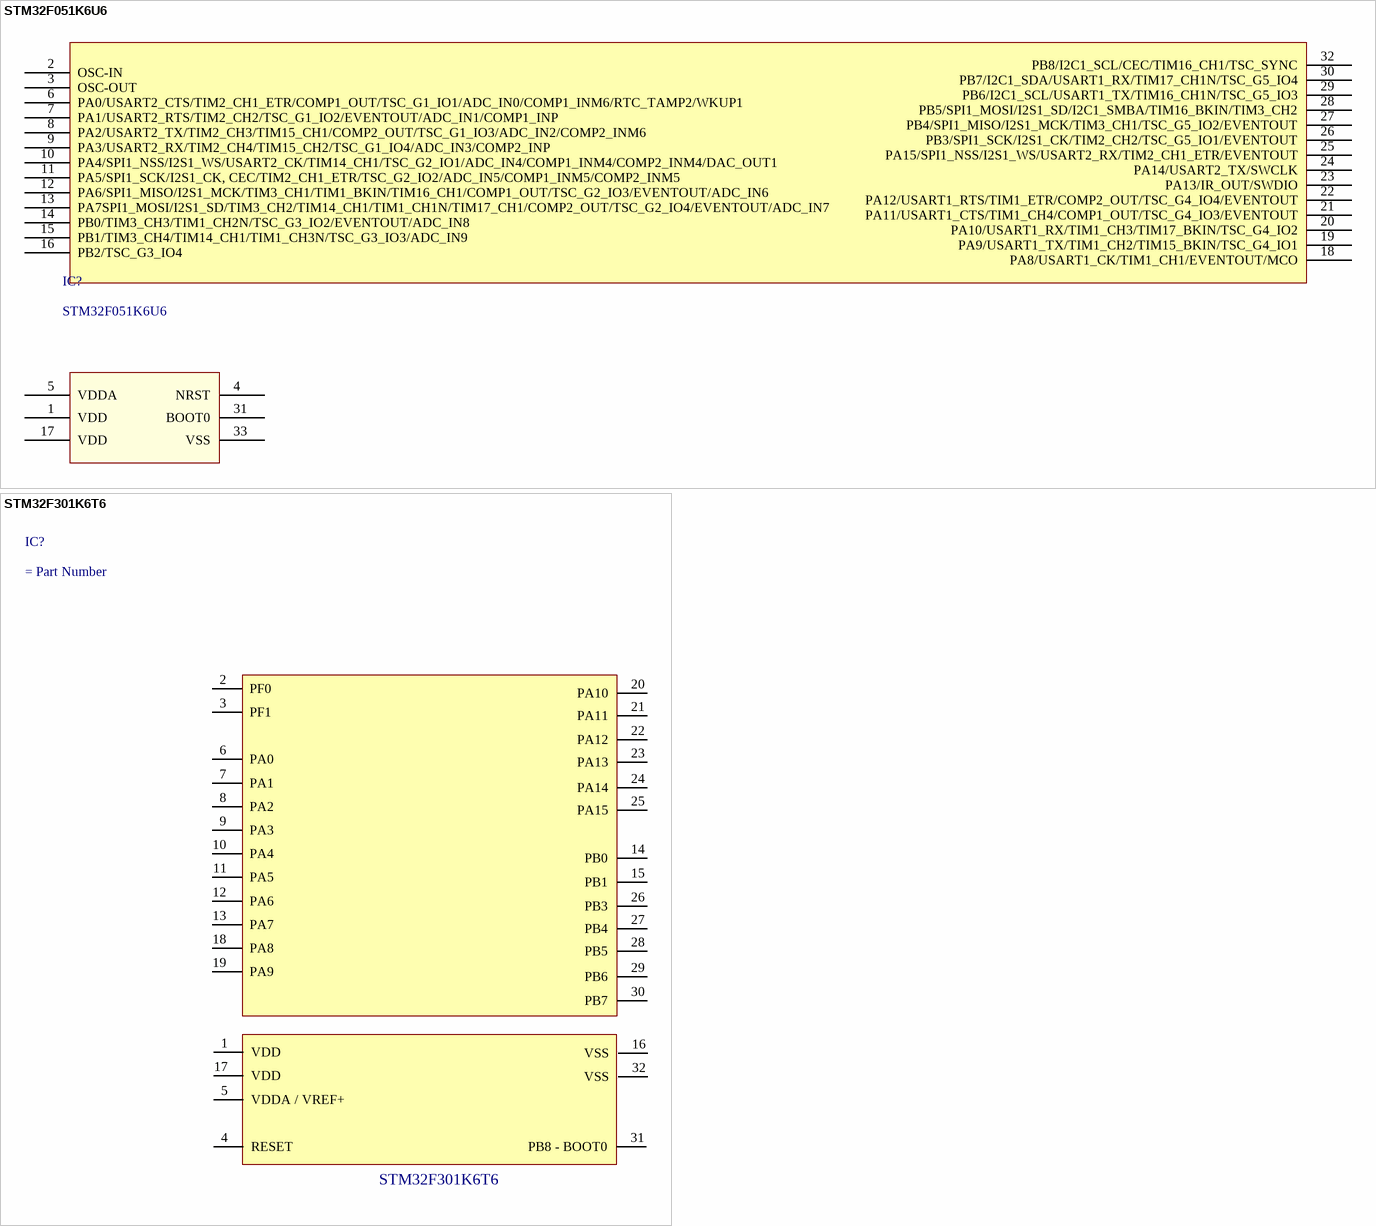
[diagram p4: symbols STM32F051K6U6 to STM32F301K6T6]

## STM32F051K6U6
designator IC?
IC MCU 32-BIT 32KB FLASH ARM Cortex-M0+ 48MHZ UFQFPN-32; Manufacturer: STMicroelectronics; Number of I/Os: 27; Oscillator Type: Internal; Peripherals: Reset,PWM,WDT,DMA,SPI,I2C,USART,DAC,Timer,ADC; Core Processor: ARM Cortex M0+; RAM Size: 8 kB; Voltage - Supply (Vcc/Vdd): 2V ~ 3.6V; Number of Timers/Counters: 11; Number of ADC Channels: 16; Number of SPI Channels: 2; Number of I2C Channels: 0; Library Control - Person that Checked Footprint: Firme; Supplier 1: Mouser; Part Number: STM32F051K6U6; Category: ARM-Microcontrollers; Price: 1=4.30, 10=3.86, 100=3.16 (USD); Package / Case: UFQFPN-32; Operating Temperature: -40C ~ 85C; Speed: 48 MHz; Program Memory Type: Flash; Program Memory Size: 32kB; Core Size: 32-bit; Number of Ethernet Channels: -; Number of USB Channels: -; Series: STM32F051; Library Ref: Microcontroller; Supplier Part Number 1: 511-STM32F051K6U6; Library Control - Checked Footprint: -; Library Control - Checked Schematic: -; Library Control - Last Project that Used: -; Library Control - Person that Checked Schematic: Firme; ComponentLink1Description: Mouser Link; ComponentLink1URL: https://br.mouser.com/ProductDetail/STMicroelectronics/STM32F051K6U6?qs=hFZnydTV6MdSevkmdmPAaA%3D%3D; ComponentLink2Description: Datasheet; ComponentLink2URL: https://br.mouser.com/datasheet/2/389/stm32f051c4-1851079.pdf
footprint UFQFPN-32 (PQFN, 32-Leads, Body 5,30x5,30mm, Pitch 0,47mm, Thermal Pad 3,45x3,45mm, IPC Medium Density)
pins: 1 VDD, 2 OSC-IN, 3 OSC-OUT, 4 NRST, 5 VDDA, 6 PA0/USART2_CTS/TIM2_CH1_ETR/COMP1_OUT/TSC_G1_IO1/ADC_IN0/COMP1_INM6/RTC_TAMP2/WKUP1, 7 PA1/USART2_RTS/TIM2_CH2/TSC_G1_IO2/EVENTOUT/ADC_IN1/COMP1_INP, 8 PA2/USART2_TX/TIM2_CH3/TIM15_CH1/COMP2_OUT/TSC_G1_IO3/ADC_IN2/COMP2_INM6, 9 PA3/USART2_RX/TIM2_CH4/TIM15_CH2/TSC_G1_IO4/ADC_IN3/COMP2_INP, 10 PA4/SPI1_NSS/I2S1_WS/USART2_CK/TIM14_CH1/TSC_G2_IO1/ADC_IN4/COMP1_INM4/COMP2_INM4/DAC_OUT1, 11 PA5/SPI1_SCK/I2S1_CK, CEC/TIM2_CH1_ETR/TSC_G2_IO2/ADC_IN5/COMP1_INM5/COMP2_INM5, 12 PA6/SPI1_MISO/I2S1_MCK/TIM3_CH1/TIM1_BKIN/TIM16_CH1/COMP1_OUT/TSC_G2_IO3/EVENTOUT/ADC_IN6, 13 PA7SPI1_MOSI/I2S1_SD/TIM3_CH2/TIM14_CH1/TIM1_CH1N/TIM17_CH1/COMP2_OUT/TSC_G2_IO4/EVENTOUT/ADC_IN7, 14 PB0/TIM3_CH3/TIM1_CH2N/TSC_G3_IO2/EVENTOUT/ADC_IN8, 15 PB1/TIM3_CH4/TIM14_CH1/TIM1_CH3N/TSC_G3_IO3/ADC_IN9, 16 PB2/TSC_G3_IO4, 17 VDD, 18 PA8/USART1_CK/TIM1_CH1/EVENTOUT/MCO, 19 PA9/USART1_TX/TIM1_CH2/TIM15_BKIN/TSC_G4_IO1, 20 PA10/USART1_RX/TIM1_CH3/TIM17_BKIN/TSC_G4_IO2, 21 PA11/USART1_CTS/TIM1_CH4/COMP1_OUT/TSC_G4_IO3/EVENTOUT, 22 PA12/USART1_RTS/TIM1_ETR/COMP2_OUT/TSC_G4_IO4/EVENTOUT, 23 PA13/IR_OUT/SWDIO, 24 PA14/USART2_TX/SWCLK, 25 PA15/SPI1_NSS/I2S1_WS/USART2_RX/TIM2_CH1_ETR/EVENTOUT, 26 PB3/SPI1_SCK/I2S1_CK/TIM2_CH2/TSC_G5_IO1/EVENTOUT, 27 PB4/SPI1_MISO/I2S1_MCK/TIM3_CH1/TSC_G5_IO2/EVENTOUT, 28 PB5/SPI1_MOSI/I2S1_SD/I2C1_SMBA/TIM16_BKIN/TIM3_CH2, 29 PB6/I2C1_SCL/USART1_TX/TIM16_CH1N/TSC_G5_IO3, 30 PB7/I2C1_SDA/USART1_RX/TIM17_CH1N/TSC_G5_IO4, 31 BOOT0, 32 PB8/I2C1_SCL/CEC/TIM16_CH1/TSC_SYNC, 33 VSS

## STM32F301K6T6
designator IC?
IC MCU 32-BIT 64KB FLASH ARM Cortex-M4 72MHZ LQFP-32; Manufacturer: STMicroelectronics; Manufacturer Part Number: STM32F301K6T6; Supplier: Mouser; Supplier Part Number: 511-STM32F301K6T6; RoHS: Yes; Category: Microcontrollers; Stock: 1339; Pricing: 1=3,47, 10=2,55, 50=2,55, 100=2,42, 1000=2,31, 10000=2,3 (USD); Reach SVHC Compliant: Yes; RoHS Compliant: Yes; ComponentLink1URL: https://datasheet.ciiva.com:443/pdfs/VipMasterIC/IC/SGST/SGST-S-A0004686242/SGST-S-A0004686242-1.pdf?src-supplier=IHS+Markit; ComponentLink1Description: https://datasheet.ciiva.com:443/pdfs/VipMasterIC/IC/SGST/SGST-S-A0004686242/SGST-S-A0004686242-1.pdf?src-supplier=IHS+Markit; ComponentLink2URL: https://www.st.com/resource/en/datasheet/stm32f301k6.pdf?src-supplier=Digikey; ComponentLink2Description: https://www.st.com/resource/en/datasheet/stm32f301k6.pdf?src-supplier=Digikey
footprint LQFP-32
pins: 1 VDD, 2 PF0, 3 PF1, 4 RESET, 5 VDDA / VREF+, 6 PA0, 7 PA1, 8 PA2, 9 PA3, 10 PA4, 11 PA5, 12 PA6, 13 PA7, 14 PB0, 15 PB1, 16 VSS, 17 VDD, 18 PA8, 19 PA9, 20 PA10, 21 PA11, 22 PA12, 23 PA13, 24 PA14, 25 PA15, 26 PB3, 27 PB4, 28 PB5, 29 PB6, 30 PB7, 31 PB8 - BOOT0, 32 VSS

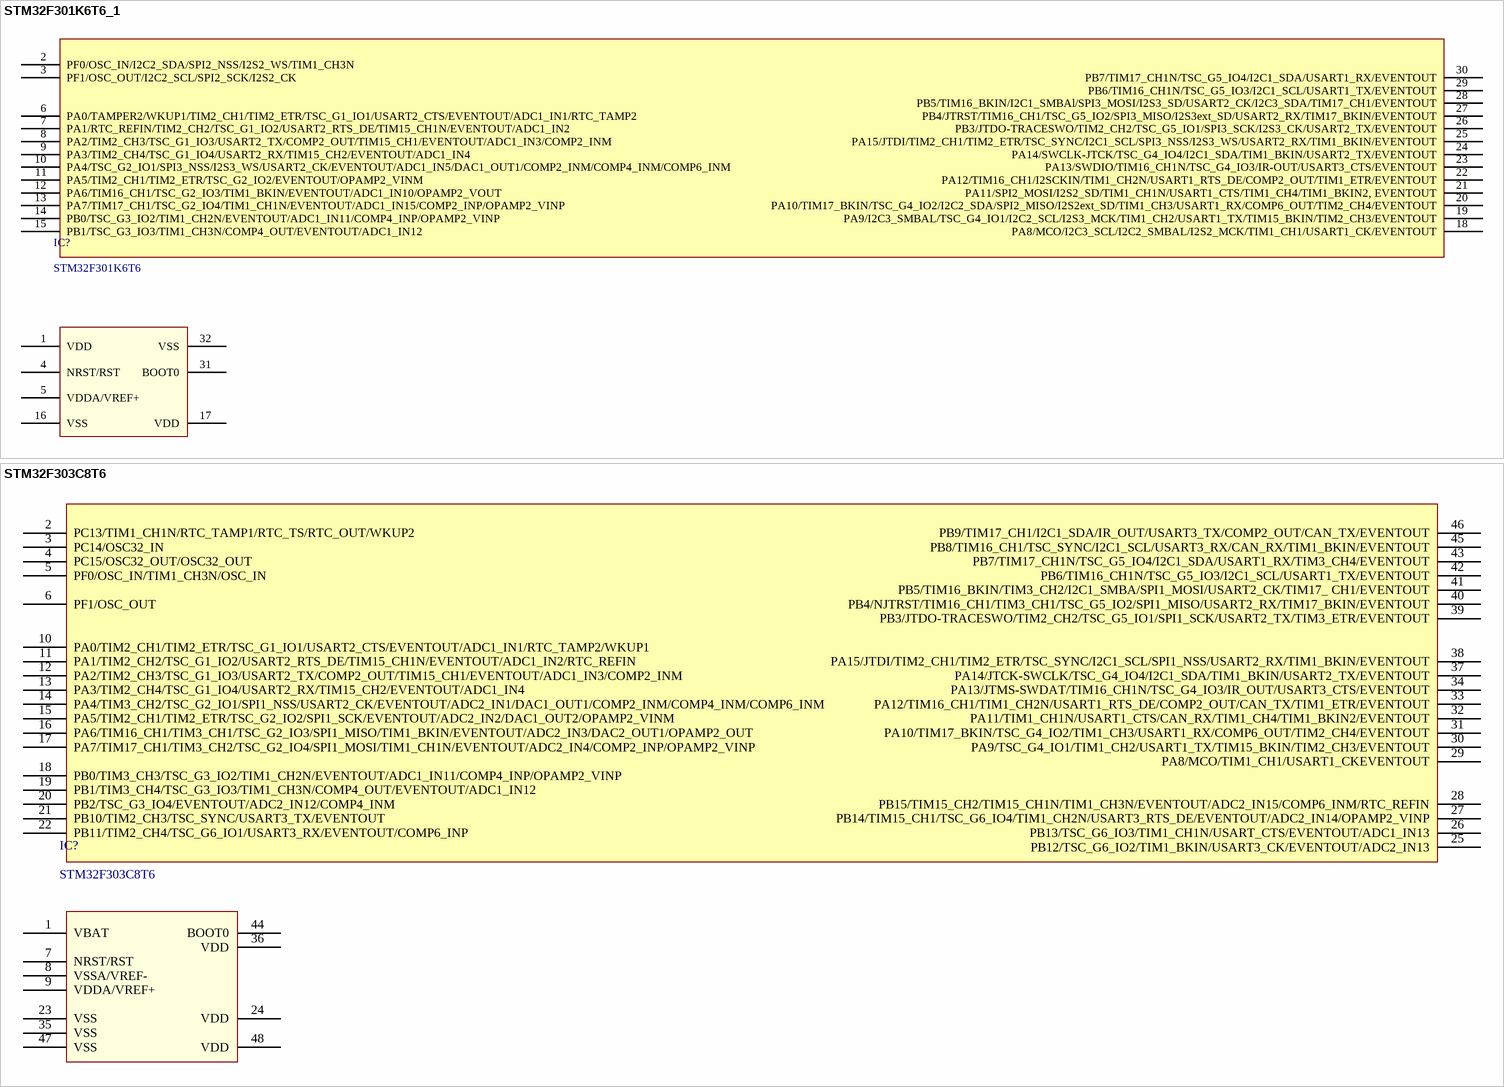
[diagram p5: symbols STM32F301K6T6_1 to STM32F303C8T6]

## STM32F301K6T6_1
designator IC?, comment STM32F301K6T6
IC MCU 32-BIT 32KB FLASH ARM Cortex-M4 72MHZ LQFP-32; Manufacturer: STMicroelectronics; Connectivity: I2C,I2S,SPI,USART; Number of I/Os: 25; Oscillator Type: Internal; Peripherals: Reset,PWM,WDT,DMA,SPI,I2C,USART,DAC,Timer,ADC; RAM Size: 16 kB; Voltage - Supply (Vcc/Vdd): 2V ~ 3.6V; Number of Timers/Counters: 9; Number of ADC Channels: 8; Number of SPI Channels: 2; Number of I2C Channels: 3; Library Control - Checked Schematic: Yes; Library Control - Person that Checked Footprint: Gustavo; Library Control - Person that did the Last Update Footprint: Stéfany (Ster); Library Control - Person that did the Last Update Schematic: Maria Laura e Stéfany (Ster); Supplier 1: Mouser; Part Number: STM32F301K6T6; Category: ARM-Microcontrollers; Price: 1=5.99, 10=5.38, 100=4.41 (USD); Package / Case: LQFP-32; Operating Temperature: -40C ~ 85C; Speed: 72 MHz; Program Memory Type: Flash; Program Memory Size: 32 kB; Core Processor: ARM Cortex-M4; Core Size: 32-bit; Number of UART/USART Channels: 2; Number of Ethernet Channels: -; Number of USB Channels: -; Series: STM32F3; Library Ref: Microcontroller; Supplier Part Number 1: 511-STM32F301K6T6; Library Control - Checked Footprint: -; Library Control - Last Project that Used: -; Library Control - Last Update: 19/08/2022 20:45; Library Control - Person that Checked Schematic: Gustavo; ComponentLink1Description: Mouser Link; ComponentLink1URL: https://br.mouser.com/ProductDetail/STMicroelectronics/STM32F301K6T6?qs=lYGu3FyN48diEpbf2nZa%2Fg%3D%3D; ComponentLink2Description: Datasheet; ComponentLink2URL: https://br.mouser.com/datasheet/2/389/dm00093332-1797834.pdf
footprint QFP-32
pins: 1 VDD, 2 PF0/OSC_IN/I2C2_SDA/SPI2_NSS/I2S2_WS/TIM1_CH3N, 3 PF1/OSC_OUT/I2C2_SCL/SPI2_SCK/I2S2_CK, 4 NRST/RST, 5 VDDA/VREF+, 6 PA0/TAMPER2/WKUP1/TIM2_CH1/TIM2_ETR/TSC_G1_IO1/USART2_CTS/EVENTOUT/ADC1_IN1/RTC_TAMP2, 7 PA1/RTC_REFIN/TIM2_CH2/TSC_G1_IO2/USART2_RTS_DE/TIM15_CH1N/EVENTOUT/ADC1_IN2, 8 PA2/TIM2_CH3/TSC_G1_IO3/USART2_TX/COMP2_OUT/TIM15_CH1/EVENTOUT/ADC1_IN3/COMP2_INM, 9 PA3/TIM2_CH4/TSC_G1_IO4/USART2_RX/TIM15_CH2/EVENTOUT/ADC1_IN4, 10 PA4/TSC_G2_IO1/SPI3_NSS/I2S3_WS/USART2_CK/EVENTOUT/ADC1_IN5/DAC1_OUT1/COMP2_INM/COMP4_INM/COMP6_INM, 11 PA5/TIM2_CH1/TIM2_ETR/TSC_G2_IO2/EVENTOUT/OPAMP2_VINM, 12 PA6/TIM16_CH1/TSC_G2_IO3/TIM1_BKIN/EVENTOUT/ADC1_IN10/OPAMP2_VOUT, 13 PA7/TIM17_CH1/TSC_G2_IO4/TIM1_CH1N/EVENTOUT/ADC1_IN15/COMP2_INP/OPAMP2_VINP, 14 PB0/TSC_G3_IO2/TIM1_CH2N/EVENTOUT/ADC1_IN11/COMP4_INP/OPAMP2_VINP, 15 PB1/TSC_G3_IO3/TIM1_CH3N/COMP4_OUT/EVENTOUT/ADC1_IN12, 16 VSS, 17 VDD, 18 PA8/MCO/I2C3_SCL/I2C2_SMBAL/I2S2_MCK/TIM1_CH1/USART1_CK/EVENTOUT, 19 PA9/I2C3_SMBAL/TSC_G4_IO1/I2C2_SCL/I2S3_MCK/TIM1_CH2/USART1_TX/TIM15_BKIN/TIM2_CH3/EVENTOUT, 20 PA10/TIM17_BKIN/TSC_G4_IO2/I2C2_SDA/SPI2_MISO/I2S2ext_SD/TIM1_CH3/USART1_RX/COMP6_OUT/TIM2_CH4/EVENTOUT, 21 PA11/SPI2_MOSI/I2S2_SD/TIM1_CH1N/USART1_CTS/TIM1_CH4/TIM1_BKIN2, EVENTOUT, 22 PA12/TIM16_CH1/I2SCKIN/TIM1_CH2N/USART1_RTS_DE/COMP2_OUT/TIM1_ETR/EVENTOUT, 23 PA13/SWDIO/TIM16_CH1N/TSC_G4_IO3/IR-OUT/USART3_CTS/EVENTOUT, 24 PA14/SWCLK-JTCK/TSC_G4_IO4/I2C1_SDA/TIM1_BKIN/USART2_TX/EVENTOUT, 25 PA15/JTDI/TIM2_CH1/TIM2_ETR/TSC_SYNC/I2C1_SCL/SPI3_NSS/I2S3_WS/USART2_RX/TIM1_BKIN/EVENTOUT, 26 PB3/JTDO-TRACESWO/TIM2_CH2/TSC_G5_IO1/SPI3_SCK/I2S3_CK/USART2_TX/EVENTOUT, 27 PB4/JTRST/TIM16_CH1/TSC_G5_IO2/SPI3_MISO/I2S3ext_SD/USART2_RX/TIM17_BKIN/EVENTOUT, 28 PB5/TIM16_BKIN/I2C1_SMBAl/SPI3_MOSI/I2S3_SD/USART2_CK/I2C3_SDA/TIM17_CH1/EVENTOUT, 29 PB6/TIM16_CH1N/TSC_G5_IO3/I2C1_SCL/USART1_TX/EVENTOUT, 30 PB7/TIM17_CH1N/TSC_G5_IO4/I2C1_SDA/USART1_RX/EVENTOUT, 31 BOOT0, 32 VSS